# Altium schematic symbol library VitalLink.SchLib: 420 symbols (part 3 of 5)
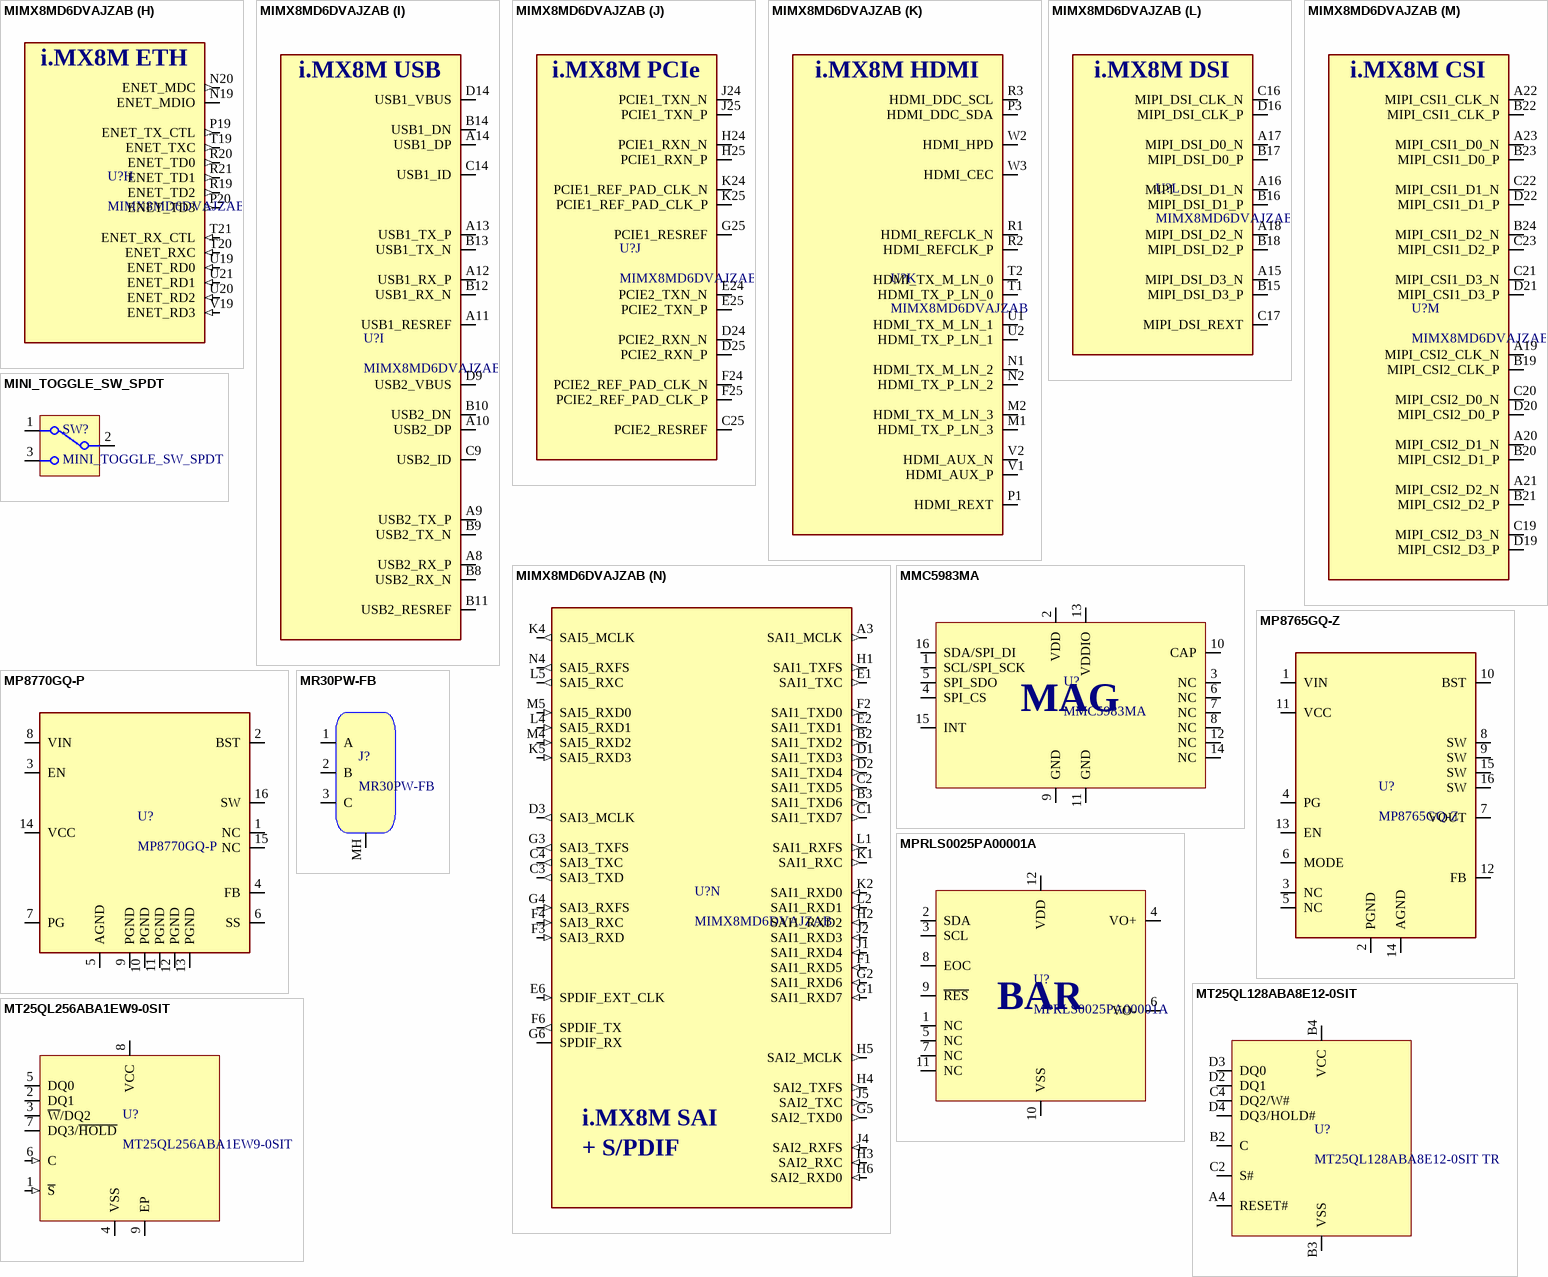
[diagram p29: symbols MIMX8MD6DVAJZAB to MT25QL256ABA1EW9-0SIT]

## MIMX8MD6DVAJZAB
designator U?
Microprocesor i.MX 8M Cortex-A53 1.5GHz Cortex-M4 FBGA-621; Manufacturer: NXP; Manufacturer Part Number: MIMX8MD6DVAJZAB; Distributor Link: https://eu.mouser.com/ProductDetail/NXP-Semiconductors/MIMX8MD6DVAJZAB?qs=byeeYqUIh0McEiqk4xmcPA%3D%3D
footprint BGA621-17X17-0MM65
part A pins: AA10 NVCC_DRAM_3, AA11 VDDA_DRAM, AA15 NVCC_DRAM_4, AB3 NVCC_DRAM_5, AB8 NVCC_DRAM_6, AB17 NVCC_DRAM_7, AB23 NVCC_DRAM_8, AC3 NVCC_DRAM_9, AC6 NVCC_DRAM_10, AC8 NVCC_DRAM_11, AC14 NVCC_DRAM_12, AC17 NVCC_DRAM_13, AC20 NVCC_DRAM_14, AC23 NVCC_DRAM_15, AD5 NVCC_DRAM_16, AD18 NVCC_DRAM_17, AD21 NVCC_DRAM_18, C11 USB2_VPTX, C12 USB1_VPTX, C18 MIPI_VDDHA_1, D8 NVCC_UART, D11 USB2_VP, D12 USB1_VP, D17 MIPI_VDDHA_2, D18 MIPI_VDDHA_3, E3 NVCC_SAI3, E11 USB2_DVDD, E12 USB1_DVDD, E15 MIPI_VDD_1, E17 MIPI_VDDA_1, E18 MIPI_VDDA_2, F5 NVCC_ECSPI, F11 USB2_VPH, F12 USB1_VPH, F15 MIPI_VDD_2, F17 MIPI_VDDA_3, F18 MIPI_VDDA_4, F19 MIPI_VDDPLL, F22 PCIE_VP_1, F23 PCIE_VPTX_1, G11 USB2_VDD33, G12 USB1_VDD33, G14 VDD_ARM_1, G15 VDD_ARM_2, G16 VDD_ARM_3, G22 PCIE_VP_2, G23 PCIE_VPTX_2, H7 NVCC_I2C, H14 VDD_ARM_4, H15 VDD_ARM_5, H16 VDD_ARM_6, H23 PCIE_VPH_1, J7 NVCC_SAI2, J9 VDD_GPU_1, J10 VDD_GPU_2, J15 VDD_ARM_7, J16 VDD_ARM_8, J23 PCIE_VPH_2, K3 NVCC_SAI1_1, K9 VDD_GPU_3, K10 VDD_GPU_4, K12 VDD_SOC_1, K14 VDDA_1P8_FPLL-ARM, K15 VDD_ARM_9, K16 VDD_ARM_10, L3 NVCC_SAI1_2, L9 VDD_GPU_5, L10 VDD_GPU_6, L12 VDD_SOC_2, L13 VDD_SOC_3, L15 VDD_ARM_11, L16 VDD_ARM_12, L18 NVCC_NAND_1, L23 NVCC_SD1_1, M3 NVCC_SAI5, M9 VDD_GPU_7, M10 VDD_GPU_8, M12 VDD_SOC_4, M13 VDD_SOC_5, M15 VDD_ARM_13, M16 VDD_ARM_14, M18 NVCC_NAND_2, M23 NVCC_SD1_2, N8 VDD_VPU_1, N9 VDD_VPU_2, N10 VDD_VPU_3, N11 VDDA_1P8_SPLL_VIDEO2, N13 VDD_SOC_6, N23 NVCC_SD2, P2 HDMI_AVDDIO, P9 VDD_VPU_4, P10 VDD_VPU_5, P12 VDD_SOC_7, P13 VDD_SOC_8, P15 VDD_SOC_9, P16 VDD_SOC_10, R5 NVCC_GPIO1_1, R6 NVCC_GPIO1_2, R8 VDD_SOC_11, R9 VDD_SOC_12, R10 VDD_SOC_13, R11 VDD_SOC_14, R12 VDD_SOC_15, R13 VDD_SOC_16, R14 VDD_SOC_17, R15 VDD_SOC_18, R16 VDD_SOC_19, R17 EFUSE_VQPS, R18 VDD_SNVS, T8 VDD_SOC_20, T15 VDDA_1P8_SPLL_DRAM, T16 VDDA_1P8_TSENSOR, T17 VDD_SOC_21, T18 NVCC_ENET, U3 HDMI_AVDDCORE_1, U4 HDMI_AVDDCORE_2, U10 VDD_DRAM_1, U11 VDD_DRAM_2, U12 VDD_DRAM_3, U13 VDD_DRAM_4, U14 VDD_DRAM_5, U17 VDDA_1P8_FPLL, U23 VDDA_1P8_LVDS, V3 HDMI_AVDDCLK, V9 VDD_DRAM_6, V10 VDD_DRAM_7, V11 VDD_DRAM_8, V12 VDD_DRAM_9, V13 VDD_DRAM_10, V14 VDD_DRAM_11, V15 VDD_DRAM_12, V18 VDDA_0P9, W4 NVCC_JTAG, W17 VDDA_1P8_SPLL, W18 NVCC_SNVS, W23 VDDA_1P8_XTAL_27M, W24 VDDA_1P8_XTAL_25M, Y6 VDD_DRAM_13, Y8 VDD_DRAM_14, Y10 VDD_DRAM_15, Y12 NVCC_DRAM_1, Y14 NVCC_DRAM_2, Y16 VDD_DRAM_16, Y18 VDD_DRAM_17, Y20 VDD_DRAM_18
part B pins: A2 VSS_1 (power), A24 VSS_2 (power), AA5 VSS_120 (power), AA16 VSS_121 (power), AA21 VSS_122 (power), AB2 VSS_123 (power), AB9 VSS_124 (power), AB11 VSS_125 (power), AB18 VSS_126 (power), AB24 VSS_127 (power), AC4 VSS_128 (power), AC19 VSS_129 (power), AC22 VSS_130 (power), AD1 VSS_131 (power), AD7 VSS_132 (power), AD9 VSS_133 (power), AD11 VSS_134 (power), AD13 VSS_135 (power), AD16 VSS_136 (power), AD25 VSS_137 (power), AE2 VSS_138 (power), AE5 VSS_139 (power), AE21 VSS_140 (power), AE24 VSS_141 (power), B1 VSS_3 (power), B25 VSS_4 (power), C8 VSS_5 (power), C10 VSS_6 (power), C13 VSS_7 (power), C15 VSS_8 (power), C24 VSS_9 (power), D10 VSS_10 (power), D13 VSS_11 (power), D15 VSS_12 (power), D23 VSS_13 (power), E4 VSS_14 (power), E10 VSS_15 (power), E13 VSS_16 (power), E14 VSS_17 (power), E16 VSS_18 (power), E19 VSS_19 (power), E20 VSS_20 (power), E21 VSS_21 (power), E22 VSS_22 (power), E23 VSS_23 (power), F10 VSS_24 (power), F13 VSS_25 (power), F14 VSS_26 (power), F16 VSS_27 (power), F20 VSS_28 (power), G9 VSS_29 (power), G10 VSS_30 (power), G13 VSS_31 (power), G17 VSS_32 (power), G18 VSS_33 (power), G24 VSS_34 (power), H8 VSS_35 (power), H9 VSS_36 (power), H10 VSS_37 (power), H11 VSS_38 (power), H12 VSS_39 (power), H13 VSS_40 (power), H17 VSS_41 (power), H18 VSS_42 (power), J3 VSS_43 (power), J8 VSS_44 (power), J11 VSS_45 (power), J12 VSS_46 (power), J13 VSS_47 (power), J14 VSS_48 (power), J17 VSS_49 (power), J18 VSS_50 (power), J19 VSS_51 (power), K8 VSS_52 (power), K11 VSS_53 (power), K13 VSSA_FPLL_ARM (power), K17 VSS_54 (power), K18 VSS_55 (power), K23 VSS_56 (power), L8 VSS_57 (power), L11 VSS_58 (power), L14 VSS_59 (power), L17 VSS_60 (power), M8 VSS_61 (power), M11 VSS_62 (power), M14 VSS_63 (power), M17 VSS_64 (power), N3 VSS_65 (power), N12 VSSA_SPLL_VIDEO2 (power), N14 VSS_66 (power), N15 VSS_67 (power), N16 VSS_68 (power), N17 VSS_69 (power), N18 VSS_70 (power), P6 VSS_71 (power), P8 VSS_72 (power), P11 VSS_73 (power), P14 VSS_74 (power), P17 VSS_75 (power), P18 VSS_76 (power), P23 VSS_77 (power), R7 VSS_78 (power), T3 VSS_79 (power), T4 VSS_80 (power), T9 VSS_81 (power), T10 VSS_82 (power), T11 VSS_83 (power), T12 VSS_84 (power), T13 VSS_85 (power), T14 VSSA_SPLL_DRAM (power), U8 VSS_86 (power), U9 VSS_87 (power), U15 VSS_88 (power), U16 VSSA_FPLL (power), U18 VSS_89 (power), V4 VSS_90 (power), V8 VSS_91 (power), V16 VSS_92 (power), V17 VSSA_SPLL (power), V23 VSSA_XTAL_25M (power), W1 VSS_93 (power), W7 VSS_94 (power), W8 VSS_95 (power), W9 VSS_96 (power), W10 VSS_97 (power), W11 VSS_98 (power), W12 VSS_99 (power), W13 VSS_100 (power), W14 VSS_101 (power), W15 VSS_102 (power), W16 VSS_103 (power), W22 VSSA_XTAL_27M (power), W25 VSS_104 (power), Y2 VSS_105 (power), Y3 VSS_106 (power), Y4 VSS_107 (power), Y5 VSS_108 (power), Y7 VSS_109 (power), Y9 VSS_110 (power), Y11 VSS_111 (power), Y13 VSS_112 (power), Y15 VSS_113 (power), Y17 VSS_114 (power), Y19 VSS_115 (power), Y21 VSS_116 (power), Y22 VSS_117 (power), Y23 VSS_118 (power), Y24 VSS_119 (power)
part C pins: AA1 DRAM_DQ22 (io), AA2 DRAM_DQ20 (io), AA3 DRAM_DQ26 (io), AA4 DRAM_DQ25 (io), AA6 DRAM_DQ27 (io), AA7 DRAM_DQ30 (io), AA8 DRAM_DQ28 (io), AA9 DRAM_DQ31 (io), AA12 DRAM_PAR (out), AA13 DRAM_ZN, AA14 DRAM_VREF, AA17 DRAM_DQ15 (io), AA18 DRAM_DQ12 (io), AA19 DRAM_DQ14 (io), AA20 DRAM_DQ11 (io), AA22 DRAM_DQ09 (io), AA23 DRAM_DQ10 (io), AA24 DRAM_DQ04 (io), AA25 DRAM_DQ06 (io), AB1 DRAM_DQ23 (io), AB4 DRAM_DQ24 (io), AB5 DRAM_DQS3_P (out), AB6 DRAM_DM3 (out), AB7 DRAM_DQ29 (io), AB10 DRAM_NRAS (out), AB12 DRAM_BA1 (out), AB13 DRAM_RESET_N (in), AB14 DRAM_MTEST, AB15 DRAM_A9 (out), AB16 DRAM_A4 (out), AB19 DRAM_DQ13 (io), AB20 DRAM_DM1 (out), AB21 DRAM_DQS1_P (out), AB22 DRAM_DQ08 (io), AB25 DRAM_DQ07 (io), AC1 DRAM_DQS2_N (out), AC2 DRAM_DQS2_P (out), AC5 DRAM_DQS3_N (out), AC7 DRAM_CA2B_A13 (out), AC9 DRAM_CS0B (out), AC10 DRAM_NWE (out), AC11 DRAM_NCS1 (out), AC12 DRAM_ODT0 (out), AC13 DRAM_MTEST1, AC15 DRAM_A3 (out), AC16 DRAM_CKE0A_CKE0 (out), AC18 DRAM_CS1A (out), AC21 DRAM_DQS1_N (out), AC24 DRAM_DQS0_P (out), AC25 DRAM_DQS0_N (out), AD2 DRAM_DQ17 (io), AD3 DRAM_DM2 (out), AD4 DRAM_DQ19 (io), AD6 DRAM_CA5B_A0 (out), AD8 DRAM_CS1B (out), AD10 DRAM_CKE0B_CK (out), AD12 DRAM_CKtB_A2 (out), AD14 DRAM_CKtA_BA2 (out), AD15 DRAM_NCKA (out), AD17 DRAM_CA0A_A12 (out), AD19 DRAM_CA4A_A6 (out), AD20 DRAM_CA2A_A7 (out), AD22 DRAM_DQ03 (io), AD23 DRAM_DM0 (out), AD24 DRAM_DQ01 (io), AE3 DRAM_DQ16 (io), AE4 DRAM_DQ18 (io), AE6 DRAM_CA4B_A10 (out), AE7 DRAM_CA3B_BA0 (out), AE8 DRAM_CA0B (out), AE9 DRAM_CA1B_NCAS (out), AE10 DRAM_CKE1B_NCK (out), AE11 DRAM_ODT1 (out), AE12 DRAM_CKcB_A1 (out), AE13 DRAM_A15 (out), AE14 DRAM_CK_c_A_A14 (out), AE15 DRAM_CKA (out), AE16 DRAM_CA1A_A11 (out), AE17 DRAM_CKE1A_CK1 (out), AE18 DRAM_CS0A_NCS0 (out), AE19 DRAM_CA5A_A5 (out), AE20 DRAM_CA3A_A8 (out), AE22 DRAM_DQ02 (io), AE23 DRAM_DQ00 (io), Y1 DRAM_DQ21 (io), Y25 DRAM_DQ05 (io)
part D pins: R23 CLK1_P (in), T5 JTAG_TCK, T22 CLK2_P (out), T23 CLK1_N (in), U5 JTAG_TDO, U6 JTAG_TRST_B, U7 JTAG_MOD, U22 CLK2_N (out), U24 XTALO_25M (out), U25 XTALI_25M (in), V5 JTAG_TMS, V6 BOOT_MODE1 (in), V7 TEST_MODE (in), V20 PMIC_ON_REQ (out), V21 PMIC_STBY_REQ (out), V22 RTC (in), V24 XTALO_27M (out), V25 XTALI_27M (in), W5 JTAG_TDI, W6 BOOT_MODE0 (in), W19 RTC_RESET_B (in), W20 POR_B (in), W21 ONOFF (in)
part E pins: A4 ECSPI1_MOSI (out), A5 ECSPI2_SS0 (out), A6 UART3_RXD (in), A7 UART1_TXD (out), B4 ECSPI1_MISO (in), B5 ECSPI2_MISO (in), B6 UART2_RXD (in), B7 UART3_TXD (out), C5 ECSPI2_SCLK (out), C6 UART4_RXD (in), C7 UART1_RXD (in), D4 ECSPI1_SS0 (out), D5 ECSPI1_SCLK (out), D6 UART2_TXD (out), D7 UART4_TXD (out), E5 ECSPI2_MOSI (out), E7 I2C1_SCL (io), E8 I2C1_SDA (io), E9 I2C3_SDA (io), F7 I2C2_SDA (io), F8 I2C4_SCL (io), F9 I2C4_SDA (io), G7 I2C2_SCL (io), G8 I2C3_SCL (io), J6 GPIO1_IO15 (io), K6 GPIO1_IO13 (io), K7 GPIO1_IO14 (io), L6 GPIO1_IO11 (io), L7 GPIO1_IO12 (io), M6 GPIO1_IO09 (io), M7 GPIO1_IO10 (io), N5 GPIO1_IO06 (io), N6 GPIO1_IO07 (io), N7 GPIO1_IO08 (io), P4 GPIO1_IO03 (io), P5 GPIO1_IO04 (io), P7 GPIO1_IO05 (io), R4 GPIO1_IO02 (io), T6 GPIO1_IO00 (io), T7 GPIO1_IO01 (io)
part F pins: L21 SD2_CD_B (out), L22 SD2_CLK (out), L24 SD1_CMD (out), L25 SD1_CLK (out), M21 SD2_WP (out), M22 SD2_CMD (out), M24 SD1_DATA1 (io), M25 SD1_DATA0 (io), N21 SD2_DATA1 (io), N22 SD2_DATA0 (io), N24 SD1_DATA4 (io), N25 SD1_DATA2 (io), P21 SD2_DATA3 (io), P22 SD2_DATA2 (io), P24 SD1_DATA5 (io), P25 SD1_DATA3 (io), R22 SD2_RESET_B (out), R24 SD1_RESET_B (out), R25 SD1_DATA6 (io), T24 SD1_STROBE (out), T25 SD1_DATA7 (io)
part G pins: F21 NAND_CE2_B (out), G19 NAND_ALE (out), G20 NAND_DATA00 (io), G21 NAND_CE1_B (out), H19 NAND_CE0_B (out), H20 NAND_CE3_B (out), H21 NAND_CLE (out), H22 NAND_DATA02 (io), J20 NAND_DATA01 (io), J21 NAND_DATA03 (io), J22 NAND_DATA05 (io), K19 NAND_RE_B (in), K20 NAND_READY_B (in), K21 NAND_WP_B (out), K22 NAND_WE_B (out), L19 NAND_DATA06 (io), L20 NAND_DATA04 (io), M19 NAND_DATA07 (io), M20 NAND_DQS (out)
part H pins: N19 ENET_MDIO (io), N20 ENET_MDC (out), P19 ENET_TX_CTL (out), P20 ENET_TD3 (out), R19 ENET_TD2 (out), R20 ENET_TD0 (out), R21 ENET_TD1 (out), T19 ENET_TXC (out), T20 ENET_RXC (in), T21 ENET_RX_CTL (in), U19 ENET_RD0 (in), U20 ENET_RD2 (in), U21 ENET_RD1 (in), V19 ENET_RD3 (in)
part I pins: A8 USB2_RX_P, A9 USB2_TX_P, A10 USB2_DP, A11 USB1_RESREF, A12 USB1_RX_P, A13 USB1_TX_P, A14 USB1_DP, B8 USB2_RX_N, B9 USB2_TX_N, B10 USB2_DN, B11 USB2_RESREF, B12 USB1_RX_N, B13 USB1_TX_N, B14 USB1_DN, C9 USB2_ID, C14 USB1_ID, D9 USB2_VBUS, D14 USB1_VBUS
part J pins: C25 PCIE2_RESREF, D24 PCIE2_RXN_N, D25 PCIE2_RXN_P, E24 PCIE2_TXN_N, E25 PCIE2_TXN_P, F24 PCIE2_REF_PAD_CLK_N, F25 PCIE2_REF_PAD_CLK_P, G25 PCIE1_RESREF, H24 PCIE1_RXN_N, H25 PCIE1_RXN_P, J24 PCIE1_TXN_N, J25 PCIE1_TXN_P, K24 PCIE1_REF_PAD_CLK_N, K25 PCIE1_REF_PAD_CLK_P
part K pins: M1 HDMI_TX_P_LN_3, M2 HDMI_TX_M_LN_3, N1 HDMI_TX_M_LN_2, N2 HDMI_TX_P_LN_2, P1 HDMI_REXT, P3 HDMI_DDC_SDA, R1 HDMI_REFCLK_N, R2 HDMI_REFCLK_P, R3 HDMI_DDC_SCL, T1 HDMI_TX_P_LN_0, T2 HDMI_TX_M_LN_0, U1 HDMI_TX_M_LN_1, U2 HDMI_TX_P_LN_1, V1 HDMI_AUX_P, V2 HDMI_AUX_N, W2 HDMI_HPD, W3 HDMI_CEC
part L pins: A15 MIPI_DSI_D3_N, A16 MIPI_DSI_D1_N, A17 MIPI_DSI_D0_N, A18 MIPI_DSI_D2_N, B15 MIPI_DSI_D3_P, B16 MIPI_DSI_D1_P, B17 MIPI_DSI_D0_P, B18 MIPI_DSI_D2_P, C16 MIPI_DSI_CLK_N, C17 MIPI_DSI_REXT, D16 MIPI_DSI_CLK_P
part M pins: A19 MIPI_CSI2_CLK_N, A20 MIPI_CSI2_D1_N, A21 MIPI_CSI2_D2_N, A22 MIPI_CSI1_CLK_N, A23 MIPI_CSI1_D0_N, B19 MIPI_CSI2_CLK_P, B20 MIPI_CSI2_D1_P, B21 MIPI_CSI2_D2_P, B22 MIPI_CSI1_CLK_P, B23 MIPI_CSI1_D0_P, B24 MIPI_CSI1_D2_N, C19 MIPI_CSI2_D3_N, C20 MIPI_CSI2_D0_N, C21 MIPI_CSI1_D3_N, C22 MIPI_CSI1_D1_N, C23 MIPI_CSI1_D2_P, D19 MIPI_CSI2_D3_P, D20 MIPI_CSI2_D0_P, D21 MIPI_CSI1_D3_P, D22 MIPI_CSI1_D1_P
part N pins: A3 SAI1_MCLK (out), B2 SAI1_TXD2 (out), B3 SAI1_TXD6 (out), C1 SAI1_TXD7 (out), C2 SAI1_TXD5 (out), C3 SAI3_TXD (out), C4 SAI3_TXC (out), D1 SAI1_TXD3 (out), D2 SAI1_TXD4 (out), D3 SAI3_MCLK (out), E1 SAI1_TXC (out), E2 SAI1_TXD1 (out), E6 SPDIF_EXT_CLK (in), F1 SAI1_RXD5 (in), F2 SAI1_TXD0 (out), F3 SAI3_RXD (in), F4 SAI3_RXC (in), F6 SPDIF_TX (out), G1 SAI1_RXD7 (in), G2 SAI1_RXD6 (in), G3 SAI3_TXFS (out), G4 SAI3_RXFS (in), G5 SAI2_TXD0 (out), G6 SPDIF_RX, H1 SAI1_TXFS (out), H2 SAI1_RXD2 (in), H3 SAI2_RXC (in), H4 SAI2_TXFS (out), H5 SAI2_MCLK (out), H6 SAI2_RXD0 (in), J1 SAI1_RXD4 (in), J2 SAI1_RXD3 (in), J4 SAI2_RXFS (in), J5 SAI2_TXC (out), K1 SAI1_RXC (out), K2 SAI1_RXD0 (in), K4 SAI5_MCLK (out), K5 SAI5_RXD3 (in), L1 SAI1_RXFS (out), L2 SAI1_RXD1 (in), L4 SAI5_RXD1 (in), L5 SAI5_RXC (out), M4 SAI5_RXD2 (in), M5 SAI5_RXD0 (in), N4 SAI5_RXFS (out)
part A text: i.MX8M PWR
part B text: i.MX8M GND
part C text: i.MX8M DRAM
part D text: i.MX8M CONFIG
part E text: i.MX8M GPIO
part F text: i.MX8M SD
part G text: i.MX8M NAND
part H text: i.MX8M ETH
part I text: i.MX8M USB
part J text: i.MX8M PCIe
part K text: i.MX8M HDMI
part L text: i.MX8M DSI
part M text: i.MX8M CSI
part N text: i.MX8M SAI; + S/PDIF

## MINI_TOGGLE_SW_SPDT
designator SW?
Mini Toggle Switch SPDT THT
footprint MINI_TOGGLE_SW_SPDT
pins: 1, 2 COM, 3

## MMC5983MA
designator U?
±8 Gauss, High Performance 3-axis Magnetic Sensor I2C/SPI; Manufacturer: MEMSIC; Manufacturer Part Number: MMC5983MA
footprint MMC5983MA-LGA
pins: 1 SCL/SPI_SCK, 2 VDD, 3 NC, 4 SPI_CS, 5 SPI_SDO, 6 NC, 7 NC, 8 NC, 9 GND, 10 CAP, 11 GND, 12 NC, 13 VDDIO, 14 NC, 15 INT, 16 SDA/SPI_DI
text: MAG

## MP8765GQ-Z
designator U?
24V, 6A 500kHz High Efficiency Synchronous Step-down Converter; Manufacturer: MPS; Manufacturer Part Number: MIC24054YJL-TR; Distributor Link: https://www.mouser.de/ProductDetail/Monolithic-Power-Systems-MPS/MP8765GQ-Z?qs=sGAEpiMZZMsMIqGZiACxIbB7TMDfpY7yaU%252B6KH2iNJKGRJEoJj7Lfg%3D%3D
footprint QFN16-3x3-MP8765GQ
pins: 1 VIN, 2 PGND, 3 NC, 4 PG, 5 NC, 6 MODE, 7 VOUT, 8 SW, 9 SW, 10 BST, 11 VCC, 12 FB, 13 EN, 14 AGND, 15 SW, 16 SW

## MP8770GQ-P
designator U?
17V, 8A, 700kHz, High-Efficiency, Synchronous, Step-Down Converter; Manufacturer: MPS; Manufacturer Part Number: MP8770GQ-P; Distributor Link: https://www.mouser.de/ProductDetail/Monolithic-Power-Systems-MPS/MP8770GQ-P?qs=sGAEpiMZZMsMIqGZiACxIY79W%2FZ1FL4F8MuKM7Lvm3Hqk43cfQYG9A%3D%3D
footprint MP8770GQ-P
pins: 1 NC, 2 BST, 3 EN, 4 FB, 5 AGND, 6 SS, 7 PG, 8 VIN, 9 PGND, 10 PGND, 11 PGND, 12 PGND, 13 PGND, 14 VCC, 15 NC, 16 SW

## MPRLS0025PA00001A
designator U?
Board Mount Absolute Pressure Sensor Honeywell I2C 0 to 25 psi; Manufacturer: Honeywell; Manufacturer Part Number: MPRLS0025PA00001A
footprint MPR-SMD-12
pins: 1 NC, 2 SDA, 3 SCL, 4 VO+, 5 NC, 6 VO-, 7 NC, 8 EOC, 9 ~{RES}, 10 VSS, 11 NC, 12 VDD
text: BAR

## MR30PW-FB
designator J?
MR30 Connector Female 3 Position THT PCB-Mount 15A; Manufacturer: AMASS; Manufacturer Part Number: MR30PW-FB
footprint MR30PW-FB
pins: 1 A, 2 B, 3 C, MH

## MT25QL128ABA8E12-0SIT
designator U?, comment MT25QL128ABA8E12-0SIT TR
NOR Flash QSPI 128 Mbit T-PBGA-24; Manufacturer: Micron Technology; Manufacturer Part Number: MT25QL128ABA8E12-0SIT TR
footprint T-PBGA-5x5-6x8-24
pins: A4 RESET#, B2 C, B3 VSS, B4 VCC, C2 S#, C4 DQ2/W#, D2 DQ1, D3 DQ0, D4 DQ3/HOLD#

## MT25QL256ABA1EW9-0SIT
designator U?
3V 256-BIT SERIAL FLASH MEMORY QUAD SPI WSON-8; Manufacturer: Micron; Manufacturer Part Number: MT25QL256ABA1EW9-0SIT; Distributor Link: https://www.lcsc.com/product-detail/NOR-FLASH_Micron-Tech-MT25QL256ABA1EW9-0SIT-TR_C2061007.html; LCSC: C2061007
footprint WSON-8-8X6 (8-Pad WSON 8x6-mm (Package Code E) (Winbond))
pins: 1 ~{S} (in), 2 DQ1 (io), 3 ~{W}/DQ2 (io), 4 VSS (power), 5 DQ0 (io), 6 C (in), 7 DQ3/~{HOLD} (io), 8 VCC (power), 9 EP (power)

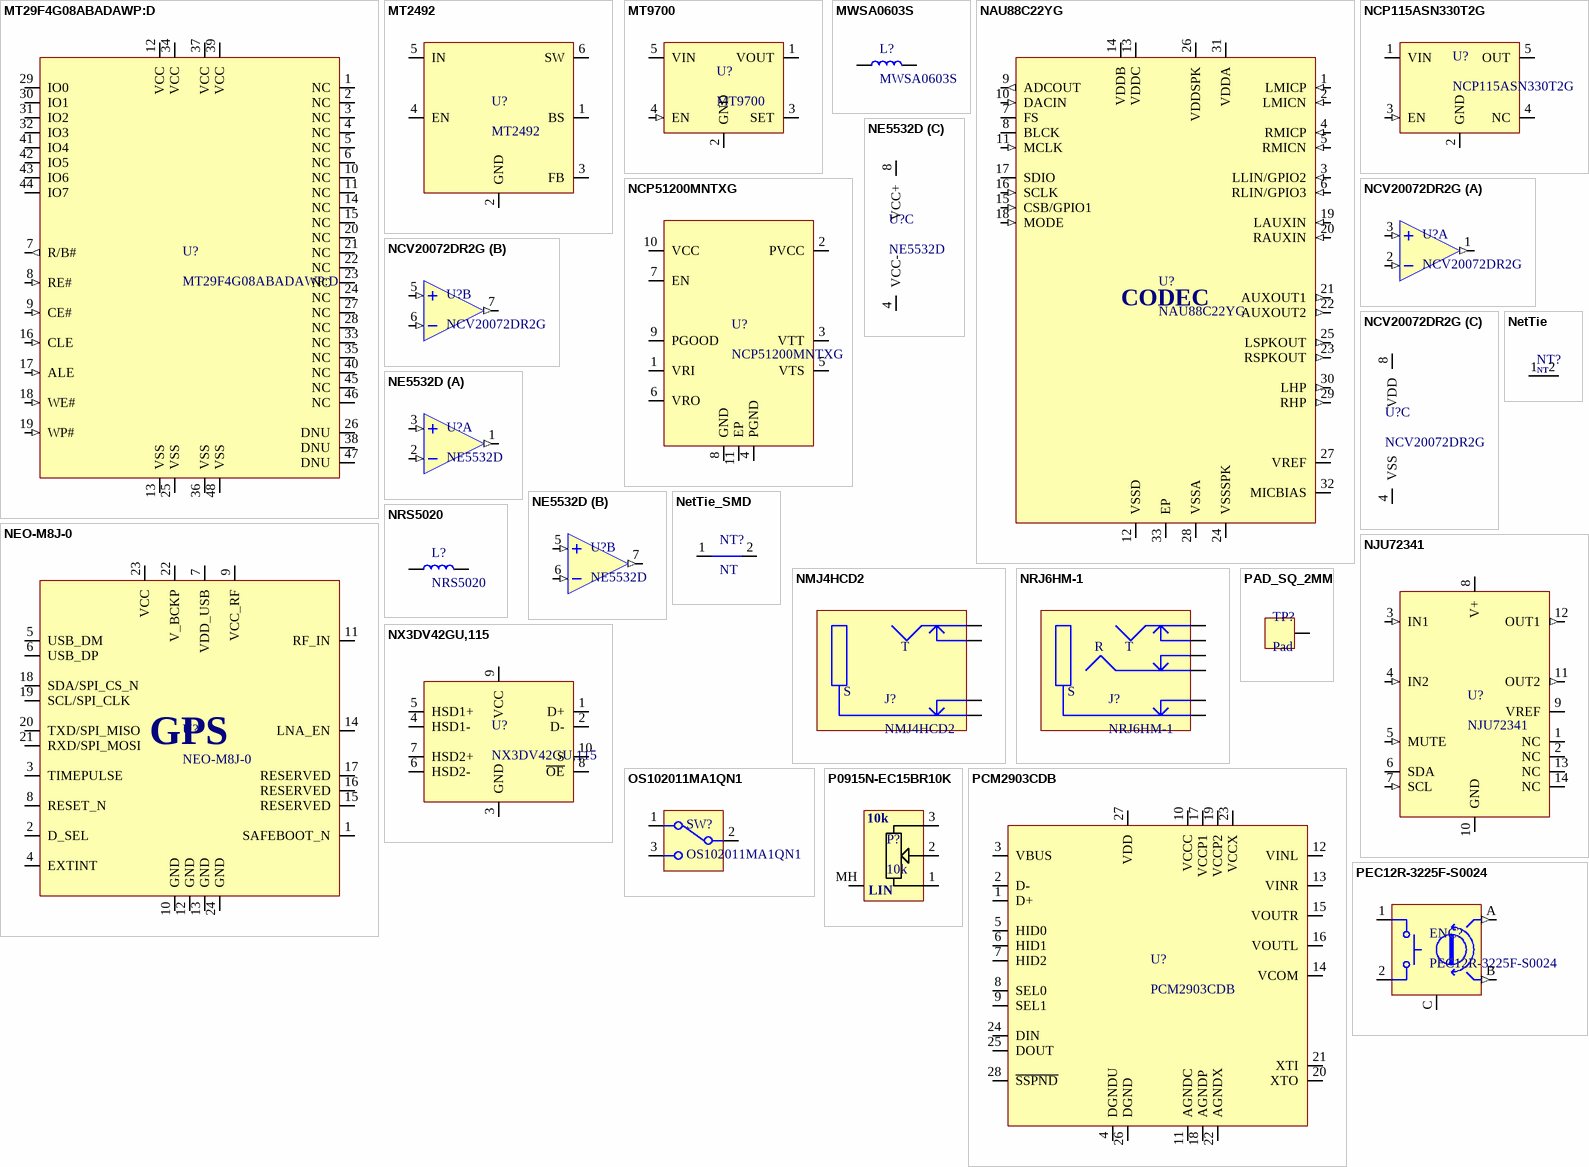
[diagram p14: symbols MT29F4G08ABADAWP:D to PEC12R-3225F-S0024]

## MT29F4G08ABADAWP:D
designator U?
NAND FLASH Memory 4Gb x8 TSOP-48; Manufacturer: Micron; Manufacturer Part Number: MT29F4G08ABADAWP:D; LCSC: C78135
footprint TSOP-48
pins: 1 NC, 2 NC, 3 NC, 4 NC, 5 NC, 6 NC, 7 R/B# (out), 8 RE# (in), 9 CE# (in), 10 NC, 11 NC, 12 VCC (power), 13 VSS (power), 14 NC, 15 NC, 16 CLE (in), 17 ALE (in), 18 WE# (in), 19 WP# (in), 20 NC, 21 NC, 22 NC, 23 NC, 24 NC, 25 VSS (power), 26 DNU, 27 NC, 28 NC, 29 IO0 (io), 30 IO1 (io), 31 IO2 (io), 32 IO3 (io), 33 NC, 34 VCC (power), 35 NC, 36 VSS (power), 37 VCC (power), 38 DNU, 39 VCC (power), 40 NC, 41 IO4 (io), 42 IO5 (io), 43 IO6 (io), 44 IO7 (io), 45 NC, 46 NC, 47 DNU, 48 VSS (power)

## MT2492
designator U?
600KHz, 16V，2A Synchronous / Step-Down Converter; Manufacturer: Aerosemi; Manufacturer Part Number: MT2492
footprint SOT-23-6
pins: 1 BS, 2 GND, 3 FB, 4 EN, 5 IN, 6 SW

## MT9700
designator U?
Adjustable Current-Limited Power Distribution Switch; Manufacturer: Aerosemi; Manufacturer Part Number: MT9700
footprint SOT-23-5 (SOT23, 5-Leads, Body 2,90x2,80mm, Pitch 0,95mm, IPC Medium Density)
pins: 1 VOUT (power), 2 GND (power), 3 SET, 4 EN (in), 5 VIN (power)

## MWSA0603S
designator L?
Power Inductor SMD Sunlord MWSA0603S; Manufacturer Part Number: MWSA0603S-; Manufacturer: Sunlord
footprint MWSA0603S
pins: 1, 2

## NAU88C22YG
designator U?
24-bit Stereo Audio Codec with Speaker Driver; Manufacturer: Nuvoton Tech; Manufacturer Part Number: NAU88C22YG
footprint QFN32-5x5-0.5
pins: 1 LMICP (in), 2 LMICN (in), 3 LLIN/GPIO2 (in), 4 RMICP (in), 5 RMICN (in), 6 RLIN/GPIO3 (in), 7 FS (io), 8 BLCK (io), 9 ADCOUT (out), 10 DACIN (in), 11 MCLK (in), 12 VSSD (power), 13 VDDC (power), 14 VDDB (power), 15 CSB/GPIO1 (in), 16 SCLK (in), 17 SDIO (io), 18 MODE (in), 19 LAUXIN (in), 20 RAUXIN (in), 21 AUXOUT1 (out), 22 AUXOUT2 (out), 23 RSPKOUT (out), 24 VSSSPK (power), 25 LSPKOUT (out), 26 VDDSPK (power), 27 VREF (power), 28 VSSA (power), 29 RHP (out), 30 LHP (out), 31 VDDA (power), 32 MICBIAS (power), 33 EP (power)
text: CODEC

## NCP115ASN330T2G
designator U?
LDO Regulator - High PSRR 300 mA 3.3V TSOP-5; Manufacturer: ON Semiconductor; Manufacturer Part Number: NCP115ASN330T2G
footprint TSOT25 (SOT23, 5-Leads, Body 2.90x2.80mm, Pitch 0.95mm, IPC Medium Density)
pins: 1 VIN (power), 2 GND (power), 3 EN (in), 4 NC, 5 OUT (power)

## NCP51200MNTXG
designator U?
Linear Voltage Regulator / 3A for DDR1, DDR2, DDR3, / LPDDR3, DDR4 VTT / Termination; Manufacturer: onsemi; Manufacturer Part Number: NCP51200MNTXG
footprint DFNW10-3x3-0_5P
pins: 1 VRI, 2 PVCC, 3 VTT, 4 PGND, 5 VTS, 6 VRO, 7 EN, 8 GND, 9 PGOOD, 10 VCC, 11 EP

## NCV20072DR2G
designator U?
Dual Rail-to-Rail Output Operational Amplifiers; Manufacturer: onsemi; Manufacturer Part Number: NCV20072DR2G; Distributor Link: https://www.lcsc.com/product-detail/Operational-Amplifier_onsemi-NCV20072DR2G_C411206.html; LCSC: C411206
footprint SOIC-8 (SOIC, 8-Leads, Body 4.91x3.90mm, Pitch 1.27mm, IPC Medium Density)
part A pins: 1 1OUT (out), 2 1IN- (in), 3 1IN+ (in)
part B pins: 5 2IN+ (in), 6 2IN- (in), 7 2OUT (out)
part C pins: 4 VSS (power), 8 VDD (power)

## NE5532D
designator U?
Dual Low-Noise Operational Amplifiers; Manufacturer: Texas Instruments; Manufacturer Part Number: NE5532D
footprint SOIC-8 (SOIC, 8-Leads, Body 4.91x3.90mm, Pitch 1.27mm, IPC Medium Density)
part A pins: 1 1OUT (out), 2 1IN- (in), 3 1IN+ (in)
part B pins: 5 2IN+ (in), 6 2IN- (in), 7 2OUT (out)
part C pins: 4 VCC-, 8 VCC+

## NEO-M8J-0
designator U?
u-blox M8 concurrent GNSS module; Manufacturer: u-blox; Manufacturer Part Number: NEO-M8J-0
footprint NEO-M8
pins: 1 SAFEBOOT_N, 2 D_SEL, 3 TIMEPULSE, 4 EXTINT, 5 USB_DM, 6 USB_DP, 7 VDD_USB, 8 RESET_N, 9 VCC_RF, 10 GND, 11 RF_IN, 12 GND, 13 GND, 14 LNA_EN, 15 RESERVED, 16 RESERVED, 17 RESERVED, 18 SDA/SPI_CS_N, 19 SCL/SPI_CLK, 20 TXD/SPI_MISO, 21 RXD/SPI_MOSI, 22 V_BCKP, 23 VCC, 24 GND
text: GPS

## NetTie
designator NT?, comment NT  (value not drawn)  (net tie, no BOM)
Net Tie
footprint NETTIE
pins: 1, 2

## NetTie_SMD
designator NT?, comment NT  (net tie, no BOM)
Net Tie SMD
footprint NETTIE_SMD
pins: 1, 2

## NJU72341
designator U?
2-Channel Audio Volume Control I2C; Manufacturer: Nisshinbo; Manufacturer Part Number: NJU72341V-TE2
footprint SSOP-14
pins: 1 NC, 2 NC, 3 IN1 (in), 4 IN2 (in), 5 MUTE (in), 6 SDA (io), 7 SCL (in), 8 V+ (power), 9 VREF (power), 10 GND (power), 11 OUT2 (out), 12 OUT1 (out), 13 NC, 14 NC

## NMJ4HCD2
designator J?
1/4" Mono Jack, TS Switched; Manufacturer: Neutrik; Manufacturer Part Number: NMJ4HCD2
footprint NMJ4HCD2
pins: S, SN, T, TN

## NRJ6HM-1
designator J?
1/4" Stereo Jack, TRS Switched; Manufacturer: Neutrik; Manufacturer Part Number: NRJ6HM-1
footprint NRJ6HM-1
pins: R, RN, S, SN, T, TN

## NRS5020
designator L?
NRS5020 SMD Power Inductor Taiyo Yuden; Manufacturer: Taiyo Yuden; Manufacturer Part Number: NRS5020
footprint NRS5020
pins: 1, 2

## NX3DV42GU,115
designator U?
USB2.0 HS DPDT Switch; Manufacturer: NXP Semiconductors; Manufacturer Part Number: NX3DV42GU,115
footprint XQFN-10_SOT1160-1
pins: 1 D+, 2 D-, 3 GND, 4 HSD1-, 5 HSD1+, 6 HSD2-, 7 HSD2+, 8 ~{OE}, 9 VCC, 10 S

## OS102011MA1QN1
designator SW?
Slide Switch SPDT Horizontal THT; Manufacturer: C&K; Manufacturer Part Number: OS102011MA1QN1
footprint OS102011MA1QN1
pins: 1, 2 COM, 3

## P0915N-EC15BR10K
designator P?, comment 10k
Potentiometer Vertical 10k Linear Taper THT PCB-Mount Smooth Shaft w/ Slot D=6mm L=15mm; Manufacturer: TT Electronics; Manufacturer Part Number: P0915N-EC15BR10K
footprint P0915N-EC15BR10K
pins: 1, 2, 3, MH
text: LIN

## PAD_SQ_2MM
designator TP?, comment Pad  (no BOM)
Test Point Square 2mm
footprint PAD_SQ_2MM
pins: 1

## PCM2903CDB
designator U?
Stereo USB1.1 CODEC with line-out and S/PDIF I/O, Self-powered (HID Interface); Manufacturer: Texas Instruments; Manufacturer Part Number: PCM2903CDB
footprint SSOP-28
pins: 1 D+, 2 D-, 3 VBUS, 4 DGNDU, 5 HID0, 6 HID1, 7 HID2, 8 SEL0, 9 SEL1, 10 VCCC, 11 AGNDC, 12 VINL, 13 VINR, 14 VCOM, 15 VOUTR, 16 VOUTL, 17 VCCP1, 18 AGNDP, 19 VCCP2, 20 XTO, 21 XTI, 22 AGNDX, 23 VCCX, 24 DIN, 25 DOUT, 26 DGND, 27 VDD, 28 ~{SSPND}

## PEC12R-3225F-S0024
designator ENC?
Rotary Encoder with Switch 20 Detents 7mm Bushing 20mm Threaded Shaft Vertical; Manufacturer: Bourns; Manufacturer Part Number: PEC12R-3225F-S0024; Distributor Link: https://www.mouser.de/ProductDetail/Bourns/PEC12R-3225F-S0024?qs=%252B9%2Fcbd0IE0RkGCm1rUs7CA%3D%3D
footprint PEC12R-3225F-S
pins: 1, 2, A (out), B (out), C GND (power)

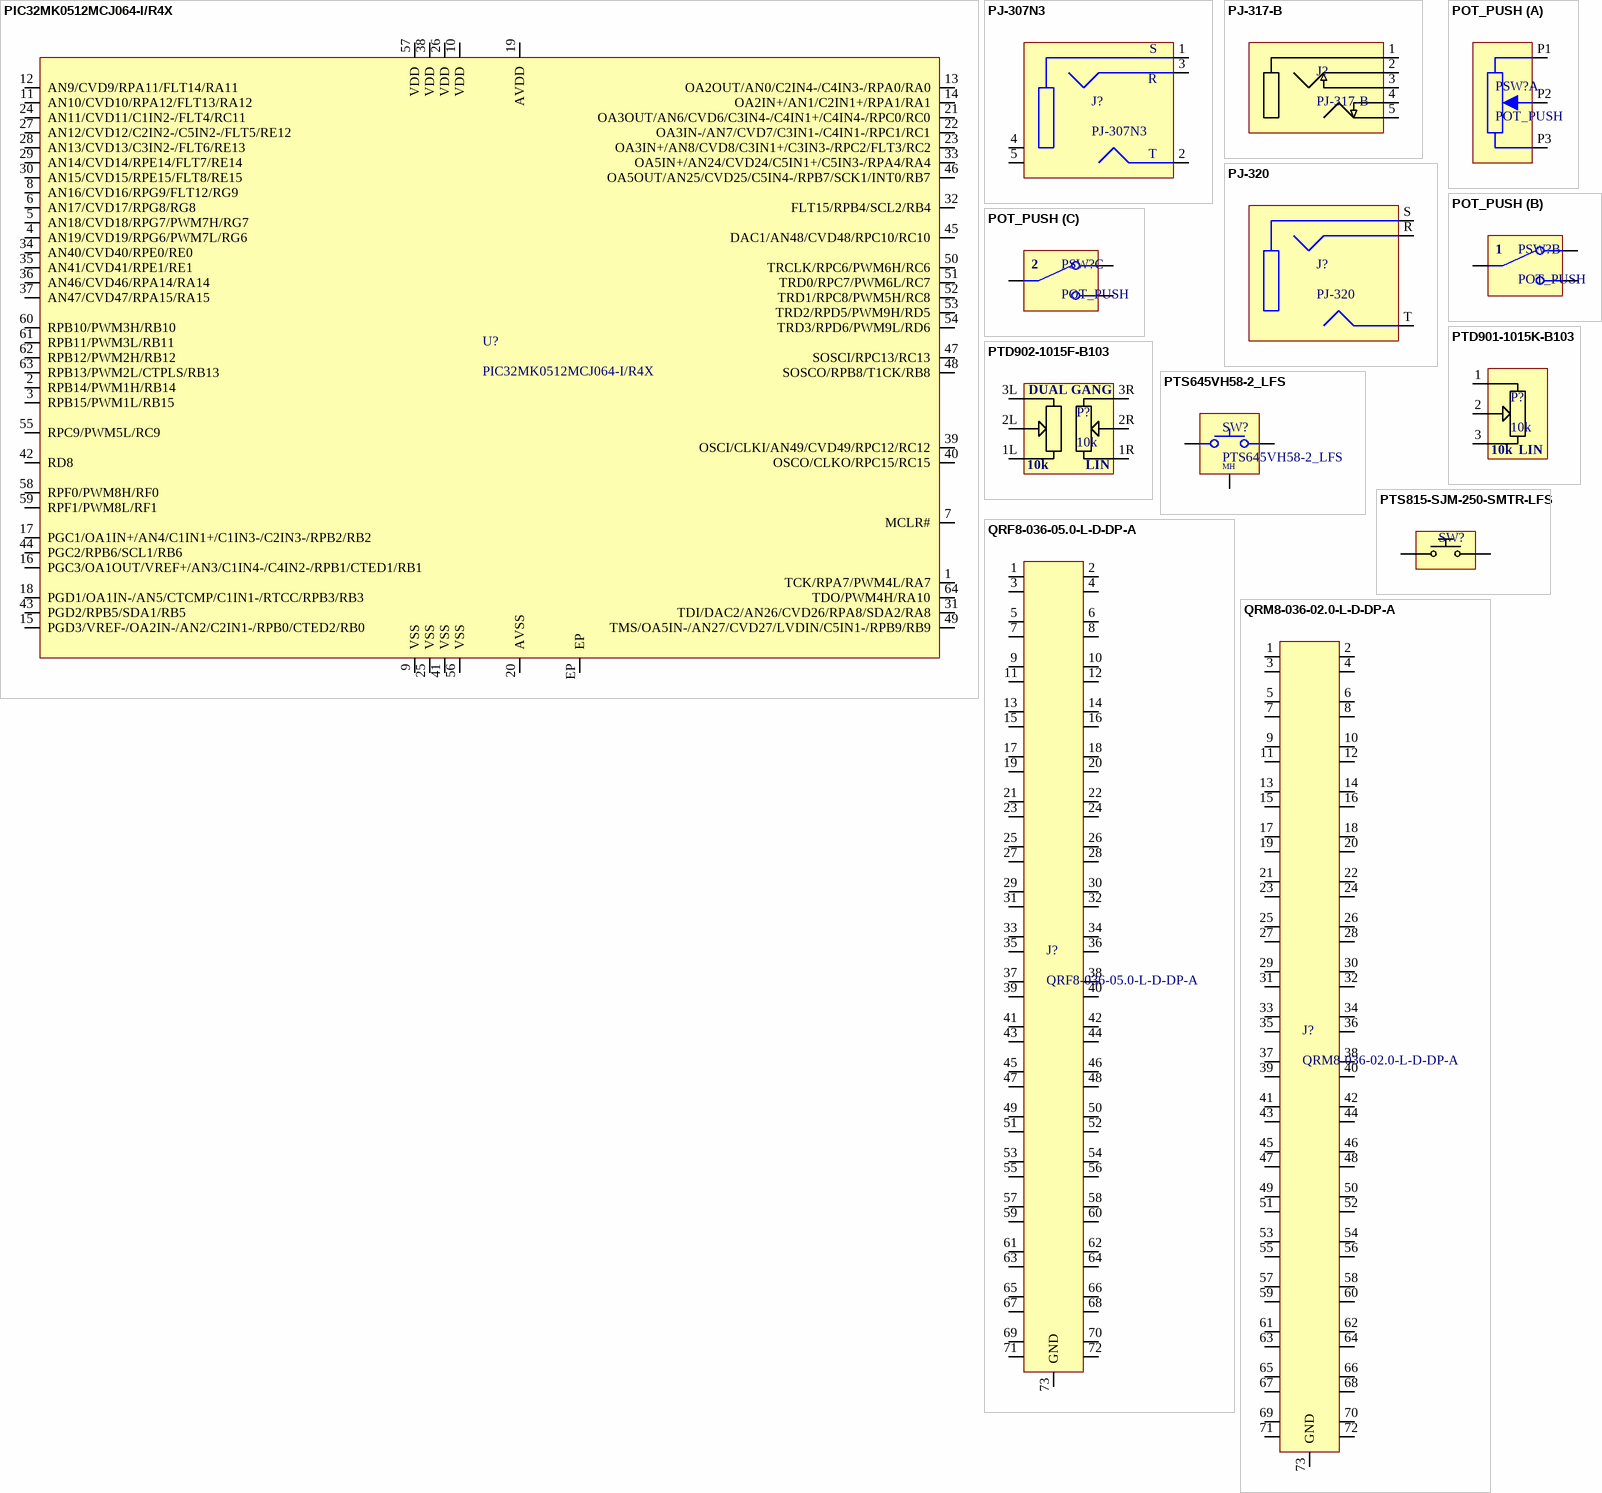
[diagram p15: symbols PIC32MK0512MCJ064-I/R4X to QRM8-036-02.0-L-D-DP-A]

## PIC32MK0512MCJ064-I/R4X
designator U?
32-bit Motor Control Application MCU with CAN FD, FPU, ECC Flash, 512kB Flash, 64kB SRAM, and Op amps; Manufacturer: Microchip; Manufacturer Part Number: PIC32MK0512MCJ064-I/R4X
footprint QFN-64-9x9x0.9-0.5P (QFN, 64-Leads, Body 9.00x9.00mm, Pitch 0.50mm, Thermal Pad 5.40x5.40mm, IPC Medium Density)
pins: 1 TCK/RPA7/PWM4L/RA7, 2 RPB14/PWM1H/RB14, 3 RPB15/PWM1L/RB15, 4 AN19/CVD19/RPG6/PWM7L/RG6, 5 AN18/CVD18/RPG7/PWM7H/RG7, 6 AN17/CVD17/RPG8/RG8, 7 MCLR#, 8 AN16/CVD16/RPG9/FLT12/RG9, 9 VSS (power), 10 VDD (power), 11 AN10/CVD10/RPA12/FLT13/RA12, 12 AN9/CVD9/RPA11/FLT14/RA11, 13 OA2OUT/AN0/C2IN4-/C4IN3-/RPA0/RA0, 14 OA2IN+/AN1/C2IN1+/RPA1/RA1, 15 PGD3/VREF-/OA2IN-/AN2/C2IN1-/RPB0/CTED2/RB0, 16 PGC3/OA1OUT/VREF+/AN3/C1IN4-/C4IN2-/RPB1/CTED1/RB1, 17 PGC1/OA1IN+/AN4/C1IN1+/C1IN3-/C2IN3-/RPB2/RB2, 18 PGD1/OA1IN-/AN5/CTCMP/C1IN1-/RTCC/RPB3/RB3, 19 AVDD (power), 20 AVSS (power), 21 OA3OUT/AN6/CVD6/C3IN4-/C4IN1+/C4IN4-/RPC0/RC0, 22 OA3IN-/AN7/CVD7/C3IN1-/C4IN1-/RPC1/RC1, 23 OA3IN+/AN8/CVD8/C3IN1+/C3IN3-/RPC2/FLT3/RC2, 24 AN11/CVD11/C1IN2-/FLT4/RC11, 25 VSS (power), 26 VDD (power), 27 AN12/CVD12/C2IN2-/C5IN2-/FLT5/RE12, 28 AN13/CVD13/C3IN2-/FLT6/RE13, 29 AN14/CVD14/RPE14/FLT7/RE14, 30 AN15/CVD15/RPE15/FLT8/RE15, 31 TDI/DAC2/AN26/CVD26/RPA8/SDA2/RA8, 32 FLT15/RPB4/SCL2/RB4, 33 OA5IN+/AN24/CVD24/C5IN1+/C5IN3-/RPA4/RA4, 34 AN40/CVD40/RPE0/RE0, 35 AN41/CVD41/RPE1/RE1, 36 AN46/CVD46/RPA14/RA14, 37 AN47/CVD47/RPA15/RA15, 38 VDD (power), 39 OSCI/CLKI/AN49/CVD49/RPC12/RC12, 40 OSCO/CLKO/RPC15/RC15, 41 VSS (power), 42 RD8, 43 PGD2/RPB5/SDA1/RB5, 44 PGC2/RPB6/SCL1/RB6, 45 DAC1/AN48/CVD48/RPC10/RC10, 46 OA5OUT/AN25/CVD25/C5IN4-/RPB7/SCK1/INT0/RB7, 47 SOSCI/RPC13/RC13, 48 SOSCO/RPB8/T1CK/RB8, 49 TMS/OA5IN-/AN27/CVD27/LVDIN/C5IN1-/RPB9/RB9, 50 TRCLK/RPC6/PWM6H/RC6, 51 TRD0/RPC7/PWM6L/RC7, 52 TRD1/RPC8/PWM5H/RC8, 53 TRD2/RPD5/PWM9H/RD5, 54 TRD3/RPD6/PWM9L/RD6, 55 RPC9/PWM5L/RC9, 56 VSS (power), 57 VDD (power), 58 RPF0/PWM8H/RF0, 59 RPF1/PWM8L/RF1, 60 RPB10/PWM3H/RB10, 61 RPB11/PWM3L/RB11, 62 RPB12/PWM2H/RB12, 63 RPB13/PWM2L/CTPLS/RB13, 64 TDO/PWM4H/RA10, EP (power)

## PJ-307N3
designator J?
3.5mm Headphone Jack THT; Manufacturer: XKB Connectivity; Manufacturer Part Number: PJ-307N3
footprint PJ-307N3
pins: 1 Sleeve, 2 Tip, 3 Ring, 4 NC, 5 NC
text: S; R; T

## PJ-317-B
designator J?
3.5mm 5-Position Audio Jack Horizontal Female THT; Manufacturer: XKB; Manufacturer Part Number: PJ-317-B
footprint PJ-317-B
pins: 1, 2, 3, 4, 5

## PJ-320
designator J?
3.5mm Headphone Jack THT; Manufacturer: XKB Connectivity; Manufacturer Part Number: PJ-320
footprint PJ-320
pins: R Ring, S Sleeve, T Tip

## POT_PUSH
designator PSW?
Potentiometer Push-Pull/Push-Push Through-Hole Generic; Manufacturer: *; Manufacturer Part Number: *
footprint POT_PUSH
part A pins: P1 1, P2 2, P3 3
part B pins: SW1COM COM, SW1NC NC, SW1NO NO
part C pins: SW2COM COM, SW2NC NC, SW2NO NO

## PTD901-1015K-B103
designator P?, comment 10k
Potentiometer Horizontal 10k Linear Taper 10% Knurled Shaft THT PCB-Mount; Manufacturer: Bourns; Manufacturer Part Number: PTD901-1015K-B103; Distributor Link: https://eu.mouser.com/ProductDetail/Bourns/PTD901-1015K-B103?qs=h2IHEVivlqCjfZBh0jm4Mw%3D%3D
footprint PTD901-XX15K
pins: 1, 2, 3
text: LIN

## PTD902-1015F-B103
designator P?, comment 10k
Potentiometer Horizontal 10k Dual Gang Linear Taper 10% THT PCB-Mount; Manufacturer: Bourns; Manufacturer Part Number: PTD902-1015F-B103
footprint PTD902-XX15F
pins: 1L 1, 1R 1, 2L 2, 2R 2, 3L 3, 3R 3
text: DUAL GANG; LIN

## PTS645VH58-2_LFS
designator SW?
Tactile Switch THT Right-Angle; Manufacturer: C&K; Manufacturer Part Number: PTS645VH58-2 LFS; Distributor Link: https://www.mouser.de/ProductDetail/CK/PTS645VH58-2-LFS?qs=rqnA19JZHeRF88sNwv94nA%3D%3D
footprint PTS645VH58-2-LFS
pins: 1, 2, MH

## PTS815-SJM-250-SMTR-LFS
designator SW?, comment Tactile Switch  (value not drawn)
Tactile Switches Tact Switch, 12 VDC, 50 mA, 4.2x3.2, 2.5mm H, 180gf, J leadspp SPST; Manufacturer: C&K Switches; Manufacturer Part Number: PTS815 SJM 250 SMTR LFS
footprint PTS815
pins: 1, 2

## QRF8-036-05.0-L-D-DP-A
designator J?
Board to Board & Mezzanine Connectors 0.80 mm Q Rate Slim Body Ground Plane Socket; Manufacturer: Samtec; Manufacturer Part Number: QRF8-036-05.0-L-D-DP-A
footprint QRF8-036-05.0-X-D-DP-A
pins: 1, 2, 3, 4, 5, 6, 7, 8, 9, 10, 11, 12, 13, 14, 15, 16, 17, 18, 19, 20, 21, 22, 23, 24, 25, 26, 27, 28, 29, 30, 31, 32, 33, 34, 35, 36, 37, 38, 39, 40, 41, 42, 43, 44, 45, 46, 47, 48, 49, 50, 51, 52, 53, 54, 55, 56, 57, 58, 59, 60, 61, 62, 63, 64, 65, 66, 67, 68, 69, 70, 71, 72, 73 GND

## QRM8-036-02.0-L-D-DP-A
designator J?
Board to Board & Mezzanine Connectors 0.80 mm Q Rate Slim Body Ground Plane Header; Manufacturer: Samtec; Manufacturer Part Number: QRM8-036-02.0-L-D-DP-A
footprint QRM8-036-02.0-L-D-DP-A
pins: 1, 2, 3, 4, 5, 6, 7, 8, 9, 10, 11, 12, 13, 14, 15, 16, 17, 18, 19, 20, 21, 22, 23, 24, 25, 26, 27, 28, 29, 30, 31, 32, 33, 34, 35, 36, 37, 38, 39, 40, 41, 42, 43, 44, 45, 46, 47, 48, 49, 50, 51, 52, 53, 54, 55, 56, 57, 58, 59, 60, 61, 62, 63, 64, 65, 66, 67, 68, 69, 70, 71, 72, 73 GND

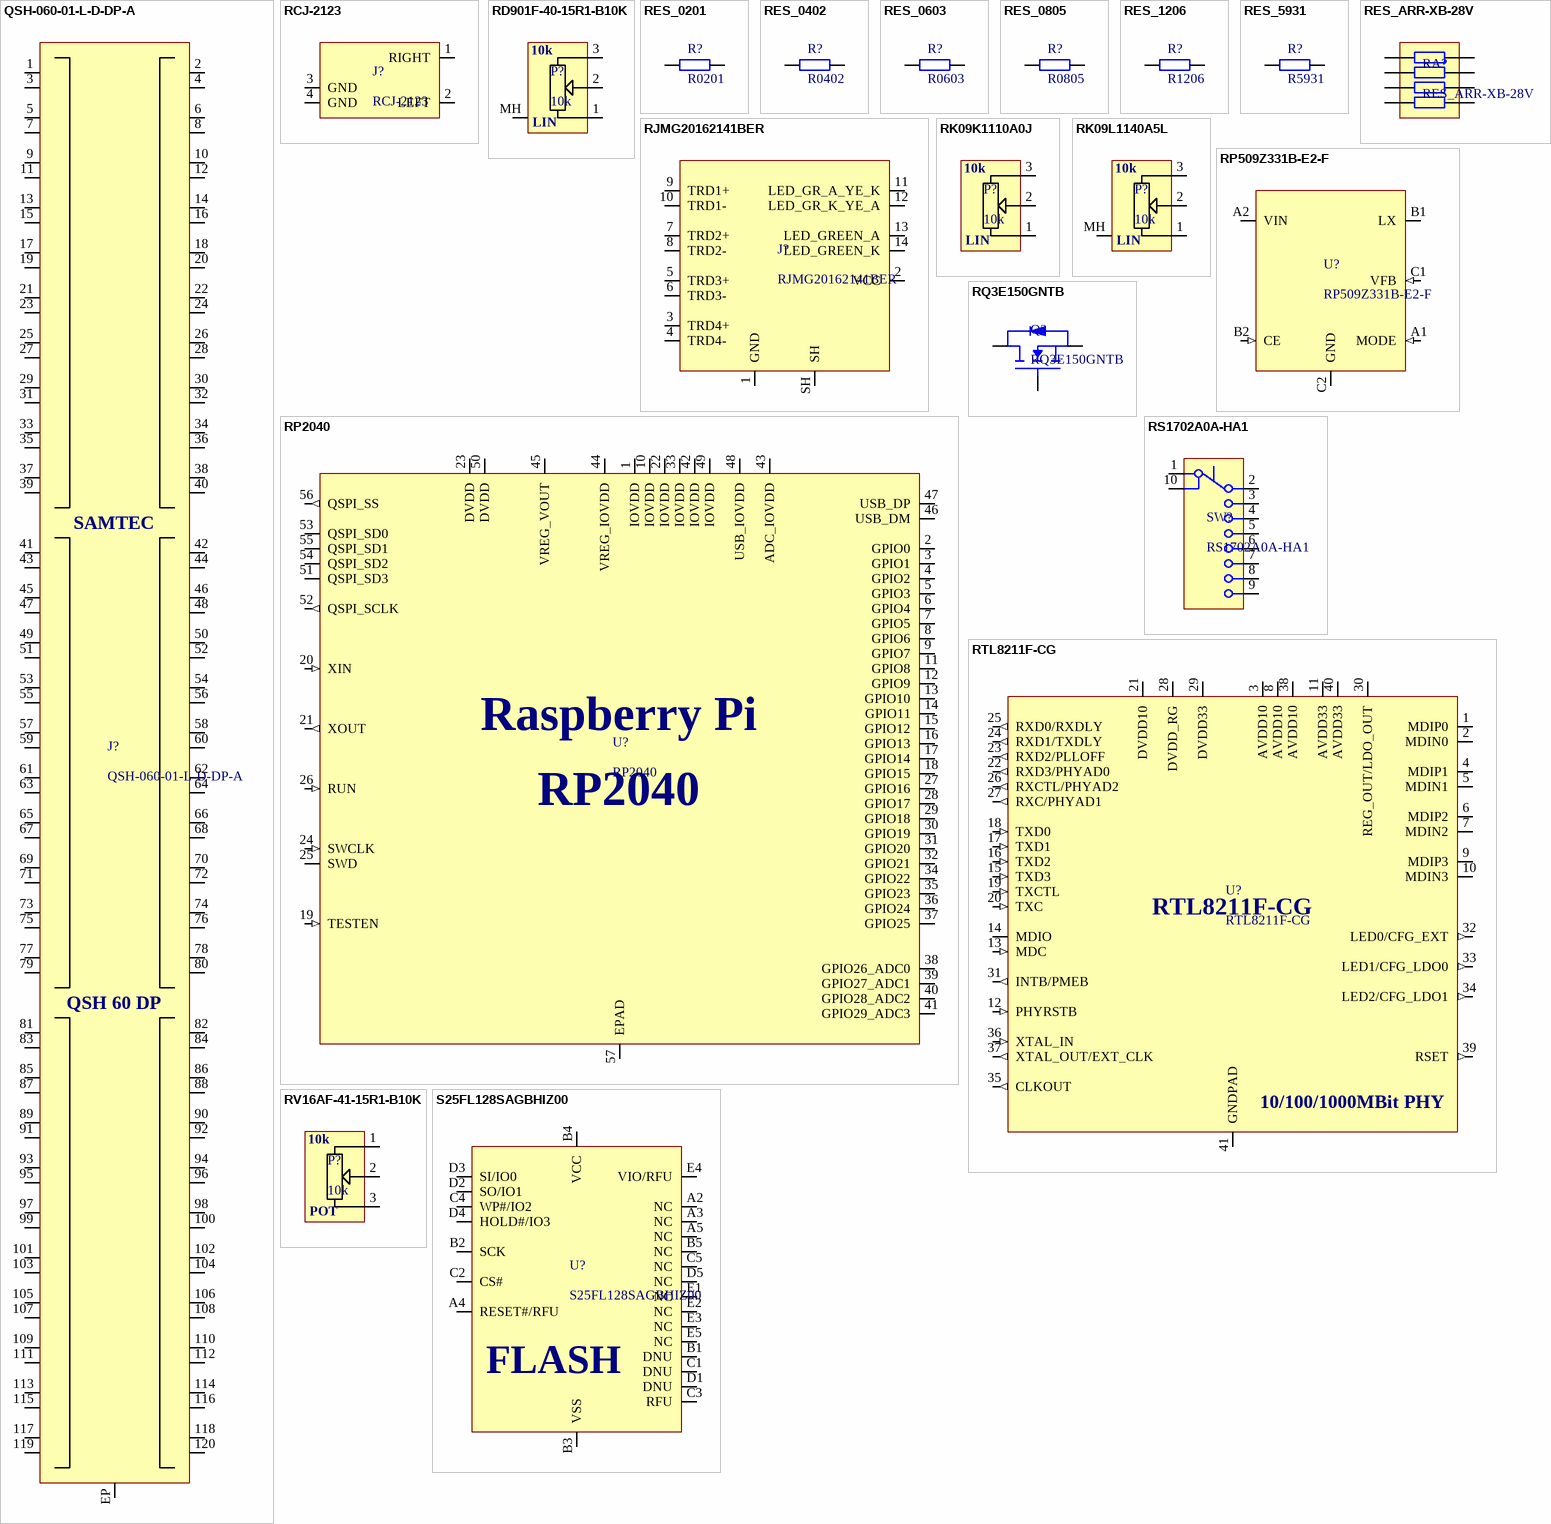
[diagram p16: symbols QSH-060-01-L-D-DP-A to S25FL128SAGBHIZ00]

## QSH-060-01-L-D-DP-A
designator J?
0.50 mm Q Pairs® High-Speed Ground Plane Socket Strip, Differential Pair 120 Positions; Manufacturer: Samtec; Manufacturer Part Number: QSH-060-01-L-D-DP-A
footprint QSH-060-01-L-D-DP-A
pins: 1, 2, 3, 4, 5, 6, 7, 8, 9, 10, 11, 12, 13, 14, 15, 16, 17, 18, 19, 20, 21, 22, 23, 24, 25, 26, 27, 28, 29, 30, 31, 32, 33, 34, 35, 36, 37, 38, 39, 40, 41, 42, 43, 44, 45, 46, 47, 48, 49, 50, 51, 52, 53, 54, 55, 56, 57, 58, 59, 60, 61, 62, 63, 64, 65, 66, 67, 68, 69, 70, 71, 72, 73, 74, 75, 76, 77, 78, 79, 80, 81, 82, 83, 84, 85, 86, 87, 88, 89, 90, 91, 92, 93, 94, 95, 96, 97, 98, 99, 100, 101, 102, 103, 104, 105, 106, 107, 108, 109, 110, 111, 112, 113, 114, 115, 116, 117, 118, 119, 120, EP
text: SAMTEC; QSH 60 DP

## RCJ-2123
designator J?
RCA Phono Connectors Dual Red White PCB Mount RIght-Angle THT; Manufacturer: CUI; Manufacturer Part Number: RCJ-2123
footprint RCJ-2123
pins: 1 RIGHT, 2 LEFT, 3 GND, 4 GND

## RD901F-40-15R1-B10K
designator P?, comment 10k
Potentiometer Vertical 10k 20% Linear Taper THT PCB-Mount 6/15mm Shaft Smooth; Manufacturer: Alps Alpine; Manufacturer Part Number: RD901F-40-15R1-B10K; Distributor Link: https://www.mouser.de/ProductDetail/Alpha-Taiwan/RD901F-40-15R1-B10K-00DL1?qs=1mbolxNpo8c1WX5KjxIjjw%3D%3D
footprint RD901F-40-15R1
pins: 1, 2, 3, MH
text: LIN

## RES_0201
designator R?, comment R0201
Resistor SMD 0201; Manufacturer: *; Manufacturer Part Number: *; Distributor Link: *; LCSC: *
footprint RES_0201
pins: 1, 2

## RES_0402
designator R?, comment R0402
Resistor SMD 0402; Manufacturer: *; Manufacturer Part Number: *; Distributor Link: *; LCSC: *
footprint RES_0402
pins: 1, 2

## RES_0603
designator R?, comment R0603
Resistor SMD 0603; Manufacturer: *; Manufacturer Part Number: *; Distributor Link: *; LCSC: *
footprint RES_0603
pins: 1, 2

## RES_0805
designator R?, comment R0805
Resistor SMD 0805; Manufacturer: *; Manufacturer Part Number: *; Distributor Link: *; LCSC: *
footprint RES_0805
pins: 1, 2

## RES_1206
designator R?, comment R1206
Resistor SMD 1206; Manufacturer: *; Manufacturer Part Number: *; Distributor Link: *; LCSC: *
footprint RES_1206
pins: 1, 2

## RES_5931
designator R?, comment R5931
Current Sense Resistor SMD 0805; Manufacturer: *; Manufacturer Part Number: *; Distributor Link: *
footprint RES_5931
pins: 1, 2

## RES_ARR-XB-28V
designator RA?
Resistor Array 0402 4 Elements Panasonic EXB-28V; Manufacturer: Panasonic
footprint EXB-28V
pins: 1, 2, 3, 4, 5, 6, 7, 8

## RJMG20162141BER
designator J?
100/1000Base-T Magnetics Single-Port RJ45 Connector with Integrated Magnetics and LEDs; Manufacturer: Amphenol; Manufacturer Part Number: RJMG20162141BER; Distributor Link: https://www.mouser.de/ProductDetail/Amphenol-Commercial-Products/RJMG20162141BER?qs=AVT0UMTfAuItaMrM1bOyzg%3D%3D; LCSC: C5433552
footprint RJMG20162141BER
pins: 1 GND, 2 VCC, 3 TRD4+ (io), 4 TRD4- (io), 5 TRD3+ (io), 6 TRD3- (io), 7 TRD2+ (io), 8 TRD2- (io), 9 TRD1+ (io), 10 TRD1- (io), 11 LED_GR_A_YE_K, 12 LED_GR_K_YE_A, 13 LED_GREEN_A, 14 LED_GREEN_K, SH

## RK09K1110A0J
designator P?, comment 10k
Potentiometer Horizontal 10k Linear Taper (1B) 20% THT PCB-Mount; Manufacturer: ALPSALPINE; Manufacturer Part Number: RK09K1110A0J
footprint RK09K1110A0J
pins: 1, 2, 3
text: LIN

## RK09L1140A5L
designator P?, comment 10k
Potentiometer Vertical 10k Linear Taper (1B) THT PCB-Mount D-Type 6mm Shaft; Manufacturer: Alps Alpine; Manufacturer Part Number: RK09L1140A5L
footprint RK09L1140A5L
pins: 1, 2, 3, MH
text: LIN

## RP509Z331B-E2-F
designator U?
0.5A/1A PWM/VFM Step-down DC/DC Converter with Synchronous Rectifier; Manufacturer: Nisshinbo; Manufacturer Part Number: RP509Z331B-E2-F; Distributor Link: https://www.mouser.de/ProductDetail/Nisshinbo/RP509Z331B-E2-F?qs=sGAEpiMZZMsMIqGZiACxIaRXO1%252BRokEQs7docw04LJAW9g0rX9qA6Q%3D%3D
footprint WLCSP-6-P6
pins: A1 MODE (in), A2 VIN (power), B1 LX (power), B2 CE (in), C1 VFB (in), C2 GND (power)

## RP2040
designator U?
32-Bit Dual-Core ARM Cortex-M0+ Microcontroller; Manufacturer: Raspberry Pi; Manufacturer Part Number: RP2040
footprint QFN-56-EP
pins: 1 IOVDD (power), 2 GPIO0 (io), 3 GPIO1 (io), 4 GPIO2 (io), 5 GPIO3 (io), 6 GPIO4 (io), 7 GPIO5 (io), 8 GPIO6 (io), 9 GPIO7 (io), 10 IOVDD (power), 11 GPIO8 (io), 12 GPIO9 (io), 13 GPIO10 (io), 14 GPIO11 (io), 15 GPIO12 (io), 16 GPIO13 (io), 17 GPIO14 (io), 18 GPIO15 (io), 19 TESTEN (in), 20 XIN (in), 21 XOUT (out), 22 IOVDD (power), 23 DVDD (power), 24 SWCLK (in), 25 SWD (io), 26 RUN (in), 27 GPIO16 (io), 28 GPIO17 (io), 29 GPIO18 (io), 30 GPIO19 (io), 31 GPIO20 (io), 32 GPIO21 (io), 33 IOVDD (power), 34 GPIO22 (io), 35 GPIO23 (io), 36 GPIO24 (io), 37 GPIO25 (io), 38 GPIO26_ADC0 (io), 39 GPIO27_ADC1 (io), 40 GPIO28_ADC2 (io), 41 GPIO29_ADC3 (io), 42 IOVDD (power), 43 ADC_IOVDD (power), 44 VREG_IOVDD (power), 45 VREG_VOUT (power), 46 USB_DM (io), 47 USB_DP (io), 48 USB_IOVDD (power), 49 IOVDD (power), 50 DVDD (power), 51 QSPI_SD3 (io), 52 QSPI_SCLK (out), 53 QSPI_SD0 (io), 54 QSPI_SD2 (io), 55 QSPI_SD1 (io), 56 QSPI_SS (out), 57 EPAD (power)

## RQ3E150GNTB
designator Q?
Nch 30V 39A Middle Power MOSFET; Manufacturer: ROHM; Manufacturer Part Number: RQ3E150GNTB
footprint HSMT-8
pins: D, G, S

## RS1702A0A-HA1
designator SW?
Rotarye Switch 10-Position THT; Manufacturer: Soundwell; Manufacturer Part Number: RS1702A0A-HA1
footprint RS1702A0A-HA1-5-012
pins: 1 COM, 2, 3, 4, 5, 6, 7, 8, 9, 10 COM

## RTL8211F-CG
designator U?
INTEGRATED 10/100/1000M ETHERNET PRECISION TRANSCEIVER; Manufacturer: Realtek; Manufacturer Part Number: RTL8211F-CG
footprint QFN-40-0.4-EP (QFN 40 Pads 0.4mm Pitch Thermal Pad)
pins: 1 MDIP0 (io), 2 MDIN0 (io), 3 AVDD10 (power), 4 MDIP1 (io), 5 MDIN1 (io), 6 MDIP2 (io), 7 MDIN2 (io), 8 AVDD10 (power), 9 MDIP3 (io), 10 MDIN3 (io), 11 AVDD33 (power), 12 PHYRSTB (in), 13 MDC (in), 14 MDIO (io), 15 TXD3 (in), 16 TXD2 (in), 17 TXD1 (in), 18 TXD0 (in), 19 TXCTL (in), 20 TXC (in), 21 DVDD10 (power), 22 RXD3/PHYAD0 (out), 23 RXD2/PLLOFF (out), 24 RXD1/TXDLY (out), 25 RXD0/RXDLY (out), 26 RXCTL/PHYAD2 (out), 27 RXC/PHYAD1 (out), 28 DVDD_RG (power), 29 DVDD33 (power), 30 REG_OUT/LDO_OUT (power), 31 INTB/PMEB (out), 32 LED0/CFG_EXT (out), 33 LED1/CFG_LDO0 (out), 34 LED2/CFG_LDO1 (out), 35 CLKOUT (out), 36 XTAL_IN (in), 37 XTAL_OUT/EXT_CLK (out), 38 AVDD10 (power), 39 RSET (out), 40 AVDD33 (power), 41 GNDPAD (power)
text: 10/100/1000MBit PHY

## RV16AF-41-15R1-B10K
designator P?, comment 10k
Potentiometer Vertical 10k THT Chassis-Mount 16mm; Manufacturer: Alpha; Manufacturer Part Number: RV16AF-41-15R1-B10K
footprint RV16AF-41-15R1-B10K
pins: 1, 2, 3
text: POT

## S25FL128SAGBHIZ00
designator U?
NOR Flash 128Mb 133MHz QSPl; Manufacturer: Cypress Semiconductor; Manufacturer Part Number: S25FL128SAGBHIZ00
footprint BGA25C100P5X5_600X800X120 (BGA, 25-Leads, Body 6.00x8.00mmx1.20mm, Pitch 1.00mm)
pins: A2 NC, A3 NC, A4 RESET#/RFU, A5 NC, B1 DNU, B2 SCK, B3 VSS, B4 VCC, B5 NC, C1 DNU, C2 CS#, C3 RFU, C4 WP#/IO2, C5 NC, D1 DNU, D2 SO/IO1, D3 SI/IO0, D4 HOLD#/IO3, D5 NC, E1 NC, E2 NC, E3 NC, E4 VIO/RFU, E5 NC
text: FLASH

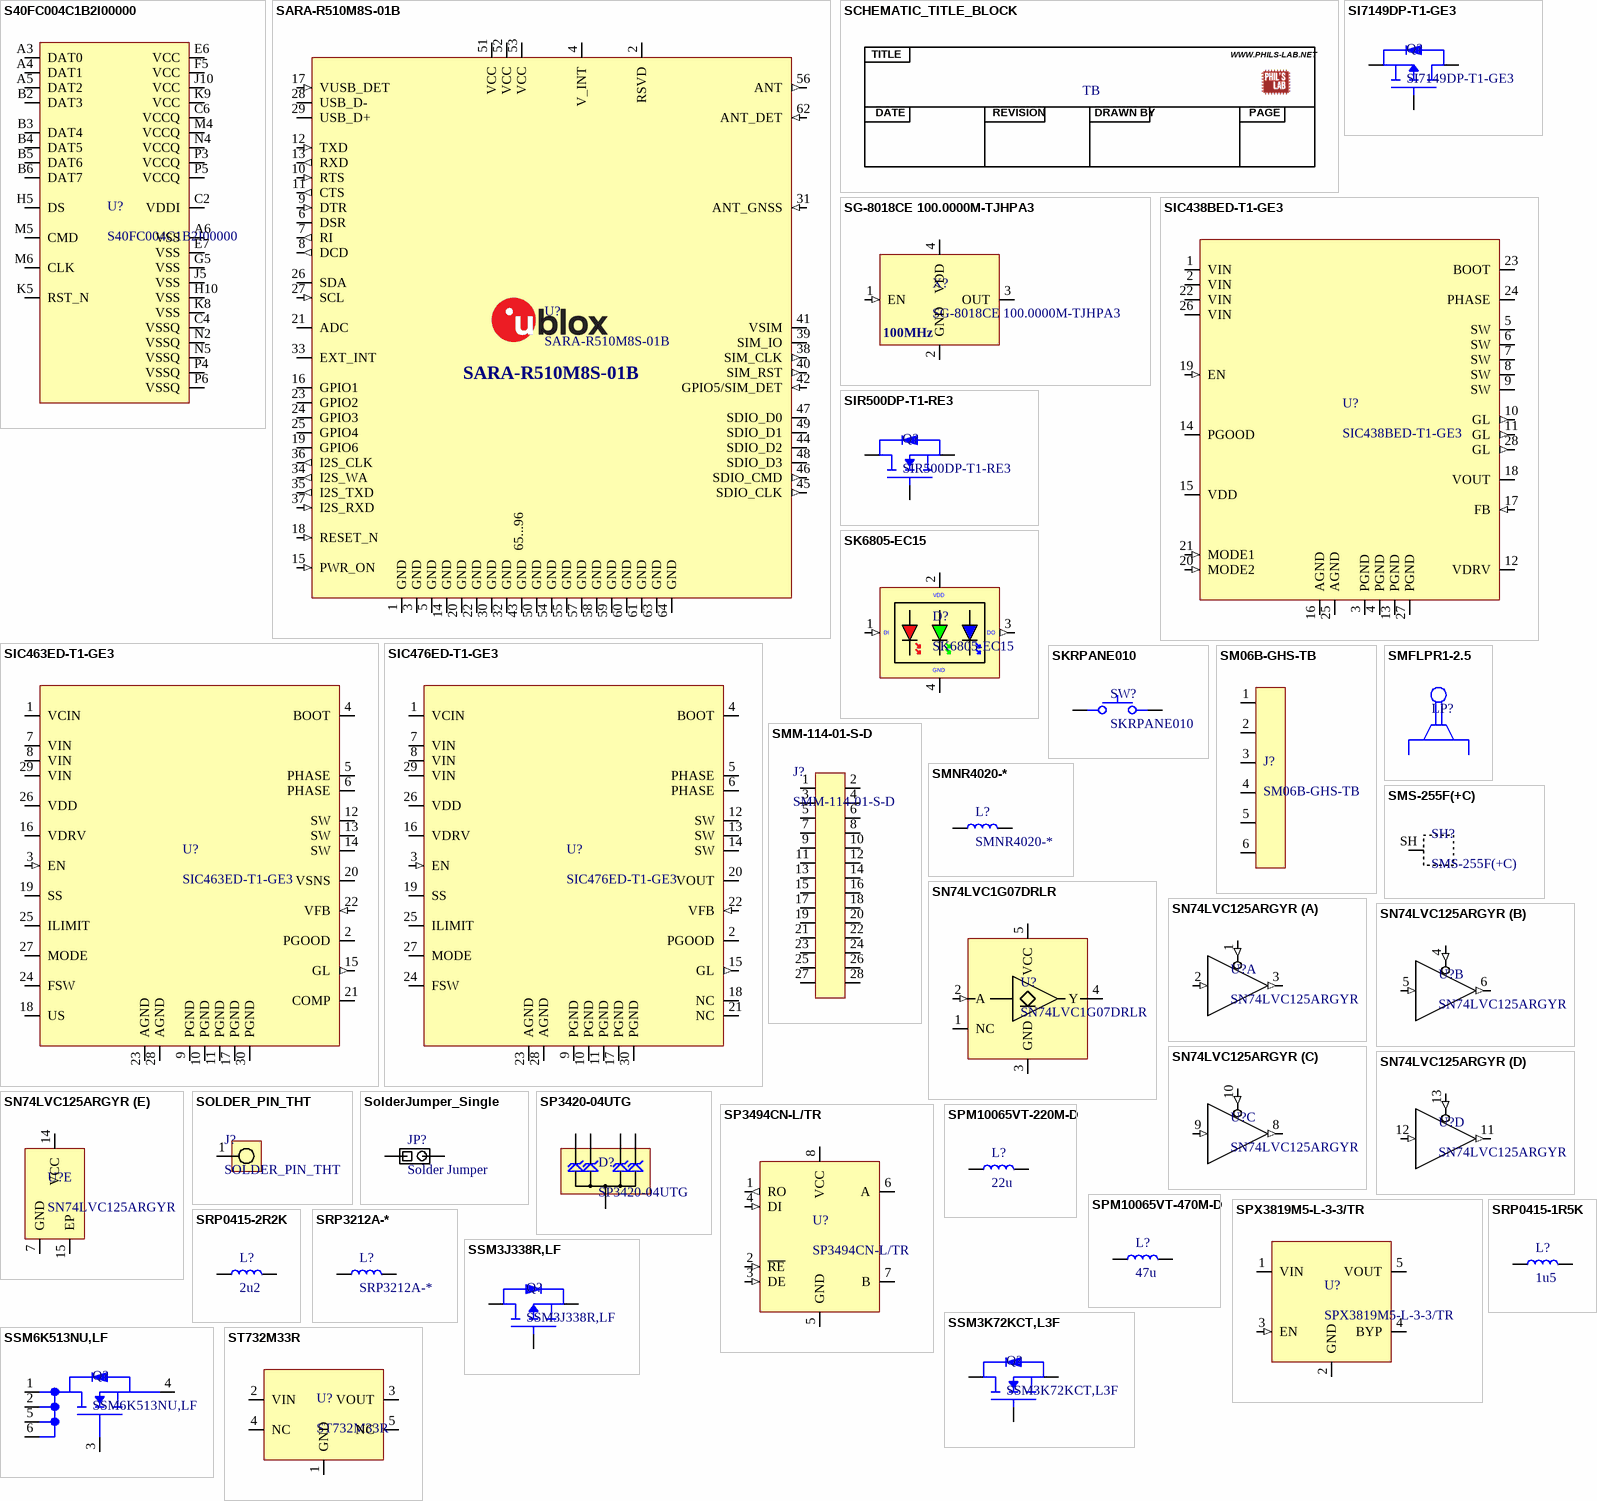
[diagram p17: symbols S40FC004C1B2I00000 to ST732M33R]

## S40FC004C1B2I00000
designator U?
eMMC MLC Memory 4GB 3V3; Manufacturer: SkyHigh Memory; Manufacturer Part Number: S40FC004C1B2I00000
footprint VFBGA153-9.0x7.5x0.8
pins: A3 DAT0, A4 DAT1, A5 DAT2, A6 VSS, B2 DAT3, B3 DAT4, B4 DAT5, B5 DAT6, B6 DAT7, C2 VDDI, C4 VSSQ, C6 VCCQ, E6 VCC, E7 VSS, F5 VCC, G5 VSS, H5 DS, H10 VSS, J5 VSS, J10 VCC, K5 RST_N, K8 VSS, K9 VCC, M4 VCCQ, M5 CMD, M6 CLK, N2 VSSQ, N4 VCCQ, N5 VSSQ, P3 VCCQ, P4 VSSQ, P5 VCCQ, P6 VSSQ

## SARA-R510M8S-01B
designator U?
Secure Cloud LTE-M and NB-IoT combo module with integrated u-blox M8 GNSS receiver for multi-regional use; Manufacturer: u-blox; Manufacturer Part Number: SARA-R510M8S-01B; Distributor Link: https://www.mouser.de/ProductDetail/u-blox/SARA-R510M8S-01B?qs=QNEnbhJQKvYa3sxdFdDP4w%3D%3D&gclid=CjwKCAiAwc-dBhA7EiwAxPRylKnSUPShzCKShE4YmhLtKIzyKR1Hn1Ejf9z6DrhP0wlU82vCiLopnxoC6RgQAvD_BwE
footprint SARA-XX (GSM/GPRS and GSM/EGPRS/HSPA Cellular Module)
pins: 1 GND (power), 2 RSVD, 3 GND (power), 4 V_INT (power), 5 GND (power), 6 DSR (io), 7 RI (out), 8 DCD (out), 9 DTR (in), 10 RTS (in), 11 CTS (out), 12 TXD (in), 13 RXD (out), 14 GND (power), 15 PWR_ON (in), 16 GPIO1 (io), 17 VUSB_DET (in), 18 RESET_N (in), 19 GPIO6, 20 GND (power), 21 ADC (power), 22 GND (power), 23 GPIO2 (io), 24 GPIO3 (io), 25 GPIO4 (io), 26 SDA (io), 27 SCL (in), 28 USB_D- (io), 29 USB_D+ (io), 30 GND (power), 31 ANT_GNSS (in), 32 GND (power), 33 EXT_INT, 34 I2S_WA (out), 35 I2S_TXD (out), 36 I2S_CLK (out), 37 I2S_RXD (in), 38 SIM_CLK (out), 39 SIM_IO (io), 40 SIM_RST (out), 41 VSIM (power), 42 GPIO5/SIM_DET (in), 43 GND (power), 44 SDIO_D2 (io), 45 SDIO_CLK (out), 46 SDIO_CMD (out), 47 SDIO_D0 (io), 48 SDIO_D3 (io), 49 SDIO_D1 (io), 50 GND (power), 51 VCC (power), 52 VCC (power), 53 VCC (power), 54 GND (power), 55 GND (power), 56 ANT (out), 57 GND (power), 58 GND (power), 59 GND (power), 60 GND (power), 61 GND (power), 62 ANT_DET (in), 63 GND (power), 64 GND (power), 65 GND (power), 66 GND (power), 67 GND (power), 68 GND (power), 69 GND (power), 70 GND (power), 71 GND (power), 72 GND (power), 73 GND (power), 74 GND (power), 75 GND (power), 76 GND (power), 77 GND (power), 78 GND (power), 79 GND (power), 80 GND (power), 81 GND (power), 82 GND (power), 83 GND (power), 84 GND (power), 85 GND (power), 86 GND (power), 87 GND (power), 88 GND (power), 89 GND (power), 90 GND (power), 91 GND (power), 92 GND (power), 93 GND (power), 94 GND (power), 95 GND (power), 96 GND (power)
text: 65...96

## SCHEMATIC_TITLE_BLOCK
designator TB  (value not drawn)  (graphical)
Default Schematic Title Block (Phil's Lab)
text: TITLE; WWW.PHILS-LAB.NET; DATE; REVISION; DRAWN BY; PAGE

## SG-8018CE 100.0000M-TJHPA3
designator X?
Standard Clock Oscillators 100 MHz 1.8V-3.3V 15PF 50PPM 3.2mm x 2.5mm; Manufacturer: Epson; Manufacturer Part Number: SG-8018CE 100.0000M-TJHPA3
footprint XTAL_3225
pins: 1 EN (in), 2 GND (power), 3 OUT, 4 VDD (power)
text: 100MHz

## SI7149DP-T1-GE3
designator Q?
MOSFET P-Channel Vds=30V Id=50A Rds=5.2mR; Manufacturer: Vishay; Manufacturer Part Number: SI7149DP-T1-GE3
footprint PowerPAK-SO-8
pins: D, G, S

## SIC438BED-T1-GE3
designator U?
3 V to 28 V Input 8A microBUCK® DC/DC Converter; Manufacturer: Vishay; Manufacturer Part Number: SIC438BED-T1-GE3; Distributor Link: https://eu.mouser.com/ProductDetail/Vishay-Siliconix/SIC438BED-T1-GE3?qs=wd5RIQLrsJhAHAqoS3ITiQ%3D%3D; LCSC: C511430
footprint MLP44-24L
pins: 1 VIN (power), 2 VIN (power), 3 PGND (power), 4 PGND (power), 5 SW (power), 6 SW (power), 7 SW (power), 8 SW (power), 9 SW (power), 10 GL (out), 11 GL (out), 12 VDRV (power), 13 PGND (power), 14 PGOOD (oc), 15 VDD (power), 16 AGND (power), 17 FB (in), 18 VOUT (power), 19 EN (in), 20 MODE2 (in), 21 MODE1 (in), 22 VIN (power), 23 BOOT (power), 24 PHASE (power), 25 AGND (power), 26 VIN (power), 27 PGND (power), 28 GL (out)

## SIC463ED-T1-GE3
designator U?
4.5 V to 60 V Input, 4 A microBUCK® DC/DC Converter; Manufacturer: Vishay; Manufacturer Part Number: SIC463ED-T1-GE3
footprint MLP55-27L
pins: 1 VCIN (power), 2 PGOOD (oc), 3 EN (in), 4 BOOT (power), 5 PHASE (power), 6 PHASE (power), 7 VIN (power), 8 VIN (power), 9 PGND (power), 10 PGND (power), 11 PGND (power), 12 SW (power), 13 SW (power), 14 SW (power), 15 GL (out), 16 VDRV (power), 17 PGND (power), 18 US, 19 SS, 20 VSNS (power), 21 COMP, 22 VFB (in), 23 AGND (power), 24 FSW, 25 ILIMIT, 26 VDD (power), 27 MODE, 28 AGND (power), 29 VIN (power), 30 PGND (power)

## SIC476ED-T1-GE3
designator U?
4.5 V to 55 V Input, 3 A, 5 A, 8 A, 12 A microBUCK® DC/DC Converter; Manufacturer: Vishay; Manufacturer Part Number: SIC476ED-T1-GE3
footprint MLP55-27L
pins: 1 VCIN (power), 2 PGOOD (oc), 3 EN (in), 4 BOOT (power), 5 PHASE (power), 6 PHASE (power), 7 VIN (power), 8 VIN (power), 9 PGND (power), 10 PGND (power), 11 PGND (power), 12 SW (power), 13 SW (power), 14 SW (power), 15 GL (out), 16 VDRV (power), 17 PGND (power), 18 NC, 19 SS, 20 VOUT (power), 21 NC, 22 VFB (in), 23 AGND (power), 24 FSW, 25 ILIMIT, 26 VDD (power), 27 MODE, 28 AGND (power), 29 VIN (power), 30 PGND (power)

## SIR500DP-T1-RE3
designator Q?
MOSFET N-Channel Vds=30V Id=351A Rds=470uR; Manufacturer: Vishay; Manufacturer Part Number: SIR500DP-T1-RE3
footprint PowerPAK-SO-8
pins: D, G, S

## SK6805-EC15
designator D?
RGB LED SMD Addressable; Manufacturer: OPSCO; Manufacturer Part Number: SK6805-EC15; Datasheet: https://www.ledlightinghut.com/files/SK6805-EC15-REV-05-EN.pdf; Distributor Link: https://eu.mouser.com/ProductDetail/Adafruit/4492?qs=CUBnOrq4ZJz3oeplDXDOWA%3D%3D
footprint SK6805-EC15
pins: 1 DIN (in), 2 VDD (power), 3 DOUT (out), 4 GND (power)
text: DI; DO

## SKRPANE010
designator SW?
Tactile Switch SMD SPST; Manufacturer: Alps Alpine; Manufacturer Part Number: SKRPANE010
footprint SKRPANE010
pins: 12, 34

## SM06B-GHS-TB
designator J?
Header Connector 6 Position 1.25MM Pitch SMD Horizontal JST GH; Manufacturer: JST; Manufacturer Part Number: SM06B-GHS-TB
footprint Model Name (Footprint not found)
footprint SM06B-GHS-TB
pins: 1, 2, 3, 4, 5, 6

## SMFLPR1-2.5
designator LP?  (value not drawn)  (mechanical)
LED Light-Pipe Rectangular Lense 2.5in Length 1mm Core; Manufacturer: BIVAR; Manufacturer Part Number: SMFLPR1-2.5; Distributor Link: https://www.mouser.de/ProductDetail/Bivar/SMFLPR1-2.5?qs=jaLxTFIJCisDD%2F7xsHCz4Q%3D%3D
footprint SMFLPR1-2.5

## SMM-114-01-S-D
designator J?
Low Profile Socket Strip 2.00 mm Pitch THT; Manufacturer: Samtec; Manufacturer Part Number: SMM-114-01-S-D
footprint SMM-114-01-S-D
pins: 1, 2, 3, 4, 5, 6, 7, 8, 9, 10, 11, 12, 13, 14, 15, 16, 17, 18, 19, 20, 21, 22, 23, 24, 25, 26, 27, 28

## SMNR4020-*
designator L?
Inductor SXN SMNR4020 Series 4x4x2mm; Manufacturer: SXN; Manufacturer Part Number: SMNR4020-*; Distributor Link: *; LCSC: *
footprint SMNR4020 (Inductor SMNR4020)
pins: 1, 2

## SMS-255F(+C)
designator SH?
RF Shield 19.05mm x 19.05mm x 5.08mm / SMS-255F = Frame / SMS-255C = Cover; Manufacturer: LeaderTech; Manufacturer Part Number: SMS-255F
footprint SMS-255F
pins: SH

## SN74LVC1G07DRLR
designator U?
Single Buffer/Driver With Open-Drain Output; Manufacturer: Texas Instruments; Manufacturer Part Number: SN74LVC1G07DRLR; Distributor Link: https://www.mouser.de/ProductDetail/Texas-Instruments/SN74LVC1G07DRLR?qs=pajgIaoyDUjwau6f5T7MtQ%3D%3D; LCSC: C183013
footprint SOT-5 (SOT, 5-Leads, Body 1.60x1.60mm, Pitch 0.50mm, IPC Medium Density)
pins: 1 NC, 2 A (in), 3 GND (power), 4 Y (oc), 5 VCC (power)

## SN74LVC125ARGYR
designator U?
Quadruple Bus Buffer Gate With 3-State Outputs; Manufacturer: Texas Instruments; Manufacturer Part Number: SN74LVC125ARGYR; Distributor Link: https://www.mouser.de/ProductDetail/Texas-Instruments/SN74LVC125ARGYR?qs=d9gICRQKuCcvN%252BAdiEuZ%252BA%3D%3D; LCSC: https://www.lcsc.com/product-detail/Buffer-Driver-Transceiver_Texas-Instruments-SN74LVC125ARGYR_C2652108.html
footprint VQFN-14 (QFN, 14-Leads, Body 3.50x3.50mm, Pitch 0.50mm, Thermal Pad 2.00x2.00mm, IPC Medium Density)
part A pins: 1 1~{OE} (in), 2 1A (in), 3 1Y (out)
part B pins: 4 2~{OE} (in), 5 2A (in), 6 2Y (out)
part C pins: 8 3Y (out), 9 3A (in), 10 3~{OE} (in)
part D pins: 11 4Y (out), 12 4A (in), 13 4~{OE} (in)
part E pins: 7 GND (power), 14 VCC (power), 15 EP (power)

## SOLDER_PIN_THT
designator J?
Solder Pin 1.5mm Through-Hole
footprint SOLDER_PIN_THT_1_5
pins: 1

## SolderJumper_Single
designator JP?, comment Solder Jumper
Solder Jumper Single 0.5mm Pitch
footprint SolderJumper_Single
pins: 1, 2

## SP3420-04UTG
designator D?
TVS Diode Array Low Capacitance ESD Protection 4-Channel (Vwork=3V3, Vclamp=6V); Manufacturer: Littelfuse; Manufacturer Part Number: SP3420-04UTG
footprint uDFN-10
pins: 29, 38 GND, 47, 56, 110

## SP3494CN-L/TR
designator U?
3.3V Low Power RS-485 / RS-422 Transceiver SOIC-8; Manufacturer: MaxLinear; Manufacturer Part Number: SP3494CN-L/TR
footprint SOIC-8 (SOIC, 8-Leads, Body 4.91x3.90mm, Pitch 1.27mm, IPC Medium Density)
pins: 1 RO (out), 2 ~{RE} (in), 3 DE (in), 4 DI (in), 5 GND (power), 6 A (io), 7 B (io), 8 VCC (power)

## SPM10065VT-220M-D
designator L?, comment 22u
Inductor SMD 22uH 5.4A 20%; Manufacturer: TDK; Manufacturer Part Number: SPM10065VT-220M-D
footprint SPM10065VT-220M-D
pins: 1, 2

## SPM10065VT-470M-D
designator L?, comment 47u
Inductor SMD 47uH 4A 20%; Manufacturer: TDK; Manufacturer Part Number: SPM10065VT-470M-D
footprint SPM10065VT-220M-D
pins: 1, 2

## SPX3819M5-L-3-3/TR
designator U?
500mA +3.3V Low-Noise LDO Voltage Regulator; Manufacturer: MaxLinear; Manufacturer Part Number: SPX3819M5-L-3-3/TR
footprint SOT-23-5 (SOT23, 5-Leads, Body 2,90x2,80mm, Pitch 0,95mm, IPC Medium Density)
pins: 1 VIN (power), 2 GND (power), 3 EN (in), 4 BYP, 5 VOUT (power)

## SRP0415-1R5K
designator L?, comment 1u5
Inductor SMD 1.5uH Bourns SRP0415-1R5K; Manufacturer: Bourns; Manufacturer Part Number: SRP0415-1R5K
footprint SRP0415
pins: 1, 2

## SRP0415-2R2K
designator L?, comment 2u2
Inductor SMD 2.2uH Bourns SRP0415-2R2K; Manufacturer: Bourns; Manufacturer Part Number: SRP0415-2R2K
footprint SRP0415
pins: 1, 2

## SRP3212A-*
designator L?
Shielded Power Inductor SMD SRP3212A; Manufacturer: Bourns; Manufacturer Part Number: SRP3212A-*; Distributor Link: *
footprint SRP3212A
pins: 1, 2

## SSM3J338R,LF
designator Q?
MOSFET P-Channel Vds=12V Id=6A; Manufacturer Part Number: Toshiba; Manufacturer: SSM3J338R,LF
footprint SSM3J338R,LF-SOT23-F
pins: D, G, S

## SSM3K72KCT,L3F
designator Q?
MOSFET N-Channel Vds=60V Id=400mA Rds(on)=1.05R with ESD Protection; Manufacturer: Toshiba; Manufacturer Part Number: SSM3K72KCT,L3F; Distributor Link: https://www.mouser.de/ProductDetail/Toshiba/SSM3K72KCTL3F?qs=PDgMCp4xDJZBSQ%2Fqg29QOw%3D%3D
footprint CST3-SOT-883
pins: D, G, S

## SSM6K513NU,LF
designator Q?
MOSFET N-Channel Vds=30V Vgs=20V Id=15A; Manufacturer: Toshiba; Manufacturer Part Number: SSM6K513NU,LF; Distributor Link: https://www.mouser.de/ProductDetail/Toshiba/SSM6K513NULF?qs=zPgndZZmKGbOGaIT7oO3Dw%3D%3D; LCSC: C3008601
footprint SOT-1220
pins: 1 D, 2 D, 3 G, 4 S, 5 D, 6 D

## ST732M33R
designator U?
300 mA, 28 V LDO low-dropout voltage regulator, with 5 µA quiescent current; Manufacturer: STMicroelectronics; Manufacturer Part Number: ST732M33R
footprint SOT-23-5 (SOT23, 5-Leads, Body 2,90x2,80mm, Pitch 0,95mm, IPC Medium Density)
pins: 1 GND (power), 2 VIN (power), 3 VOUT (power), 4 NC, 5 NC

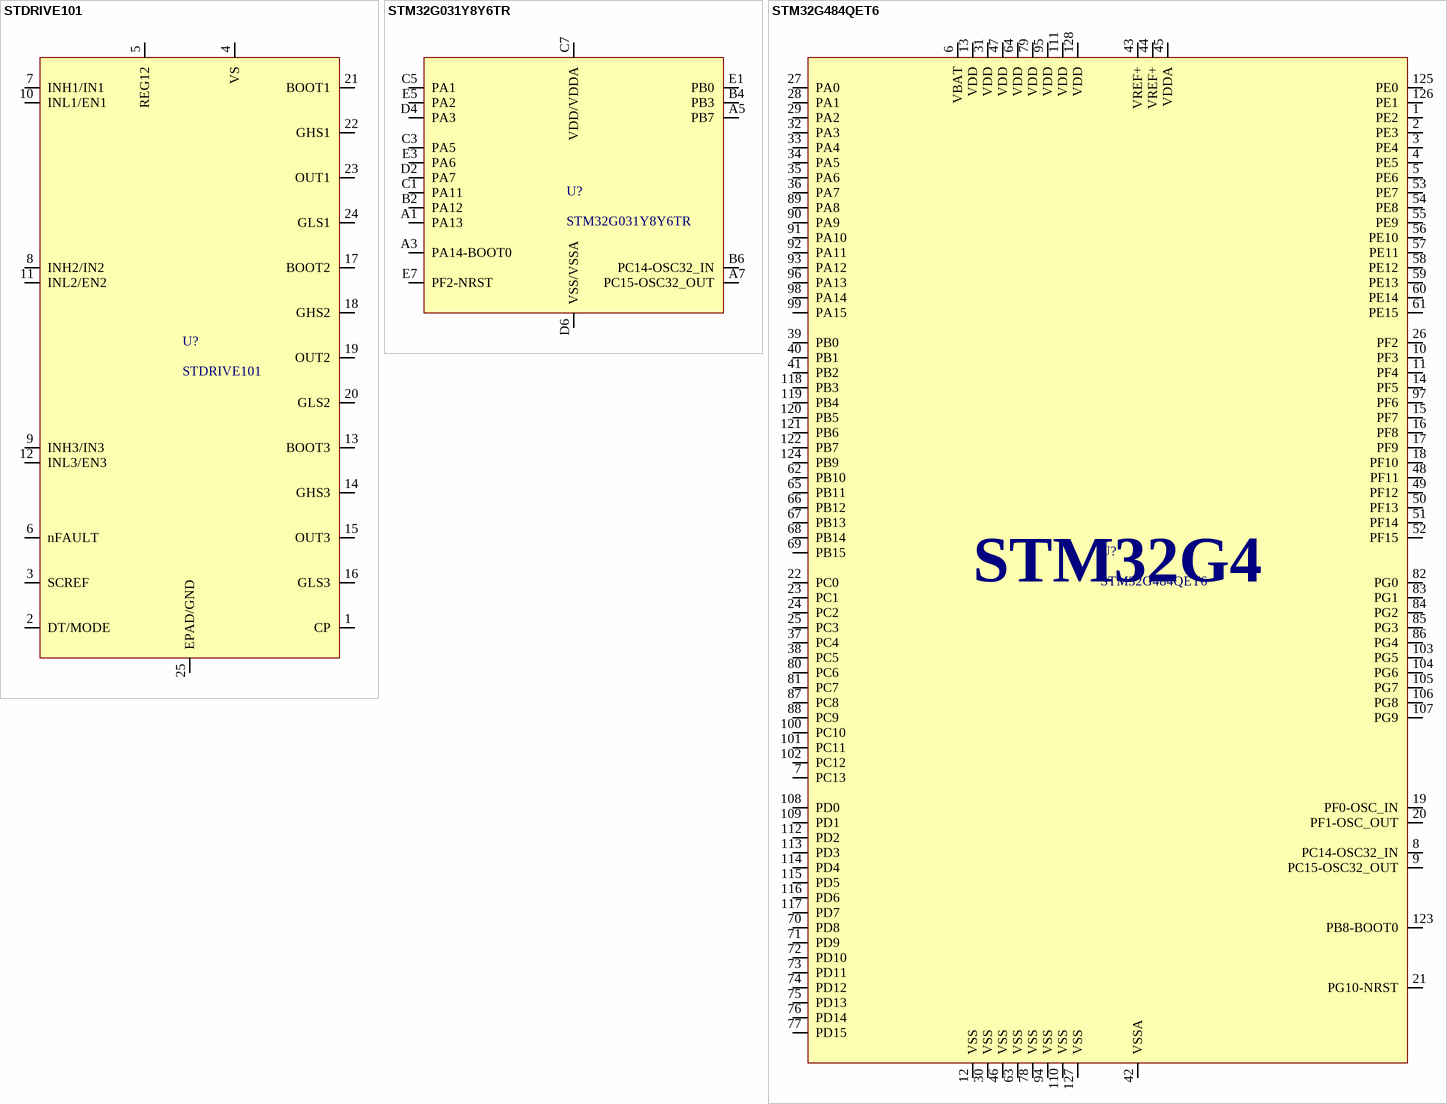
[diagram p18: symbols STDRIVE101 to STM32G484QET6]

## STDRIVE101
designator U?
Gate Driver 3x Half-Bridge; Manufacturer: STMicroelectronics; Manufacturer Part Number: STDRIVE101
footprint VFQFPN24_4X4X1 (QFN, 24-Leads, Body 4,00x4,00mm, Pitch 0,50mm, Thermal Pad 2,50x2,50mm, IPC Medium Density)
pins: 1 CP, 2 DT/MODE, 3 SCREF, 4 VS, 5 REG12, 6 nFAULT, 7 INH1/IN1, 8 INH2/IN2, 9 INH3/IN3, 10 INL1/EN1, 11 INL2/EN2, 12 INL3/EN3, 13 BOOT3, 14 GHS3, 15 OUT3, 16 GLS3, 17 BOOT2, 18 GHS2, 19 OUT2, 20 GLS2, 21 BOOT1, 22 GHS1, 23 OUT1, 24 GLS1, 25 EPAD/GND

## STM32G031Y8Y6TR
designator U?
ARM Microcontrollers - MCU Mainstream Arm Cortex-M0+ MCU 64 Kbytes of Flash 8 Kbytes RAM, 64 MHz CPU STM32; Manufacturer: STMicroelectronics; Manufacturer Part Number: STM32G031Y8Y6TR
footprint WLCSP18
pins: A1 PA13, A3 PA14-BOOT0, A5 PB7, A7 PC15-OSC32_OUT, B2 PA12, B4 PB3, B6 PC14-OSC32_IN, C1 PA11, C3 PA5, C5 PA1, C7 VDD/VDDA (power), D2 PA7, D4 PA3, D6 VSS/VSSA (power), E1 PB0, E3 PA6, E5 PA2, E7 PF2-NRST

## STM32G484QET6
designator U?
STM32G4 Microcontroller LQFP-128 170 MHz 107 I/O; Manufacturer: STMicroelectronics; Manufacturer Part Number: STM32G484QET6
footprint LQFP-128 (CQFP, 128-Leads, Body 16,00x16,00mm, Pitch 0,40mm, IPC Medium Density)
pins: 1 PE2, 2 PE3, 3 PE4, 4 PE5, 5 PE6, 6 VBAT, 7 PC13, 8 PC14-OSC32_IN, 9 PC15-OSC32_OUT, 10 PF3, 11 PF4, 12 VSS, 13 VDD, 14 PF5, 15 PF7, 16 PF8, 17 PF9, 18 PF10, 19 PF0-OSC_IN, 20 PF1-OSC_OUT, 21 PG10-NRST, 22 PC0, 23 PC1, 24 PC2, 25 PC3, 26 PF2, 27 PA0, 28 PA1, 29 PA2, 30 VSS, 31 VDD, 32 PA3, 33 PA4, 34 PA5, 35 PA6, 36 PA7, 37 PC4, 38 PC5, 39 PB0, 40 PB1, 41 PB2, 42 VSSA, 43 VREF+, 44 VREF+, 45 VDDA, 46 VSS, 47 VDD, 48 PF11, 49 PF12, 50 PF13, 51 PF14, 52 PF15, 53 PE7, 54 PE8, 55 PE9, 56 PE10, 57 PE11, 58 PE12, 59 PE13, 60 PE14, 61 PE15, 62 PB10, 63 VSS, 64 VDD, 65 PB11, 66 PB12, 67 PB13, 68 PB14, 69 PB15, 70 PD8, 71 PD9, 72 PD10, 73 PD11, 74 PD12, 75 PD13, 76 PD14, 77 PD15, 78 VSS, 79 VDD, 80 PC6, 81 PC7, 82 PG0, 83 PG1, 84 PG2, 85 PG3, 86 PG4, 87 PC8, 88 PC9, 89 PA8, 90 PA9, 91 PA10, 92 PA11, 93 PA12, 94 VSS, 95 VDD, 96 PA13, 97 PF6, 98 PA14, 99 PA15, 100 PC10, 101 PC11, 102 PC12, 103 PG5, 104 PG6, 105 PG7, 106 PG8, 107 PG9, 108 PD0, 109 PD1, 110 VSS, 111 VDD, 112 PD2, 113 PD3, 114 PD4, 115 PD5, 116 PD6, 117 PD7, 118 PB3, 119 PB4, 120 PB5, 121 PB6, 122 PB7, 123 PB8-BOOT0, 124 PB9, 125 PE0, 126 PE1, 127 VSS, 128 VDD
text: STM32G4

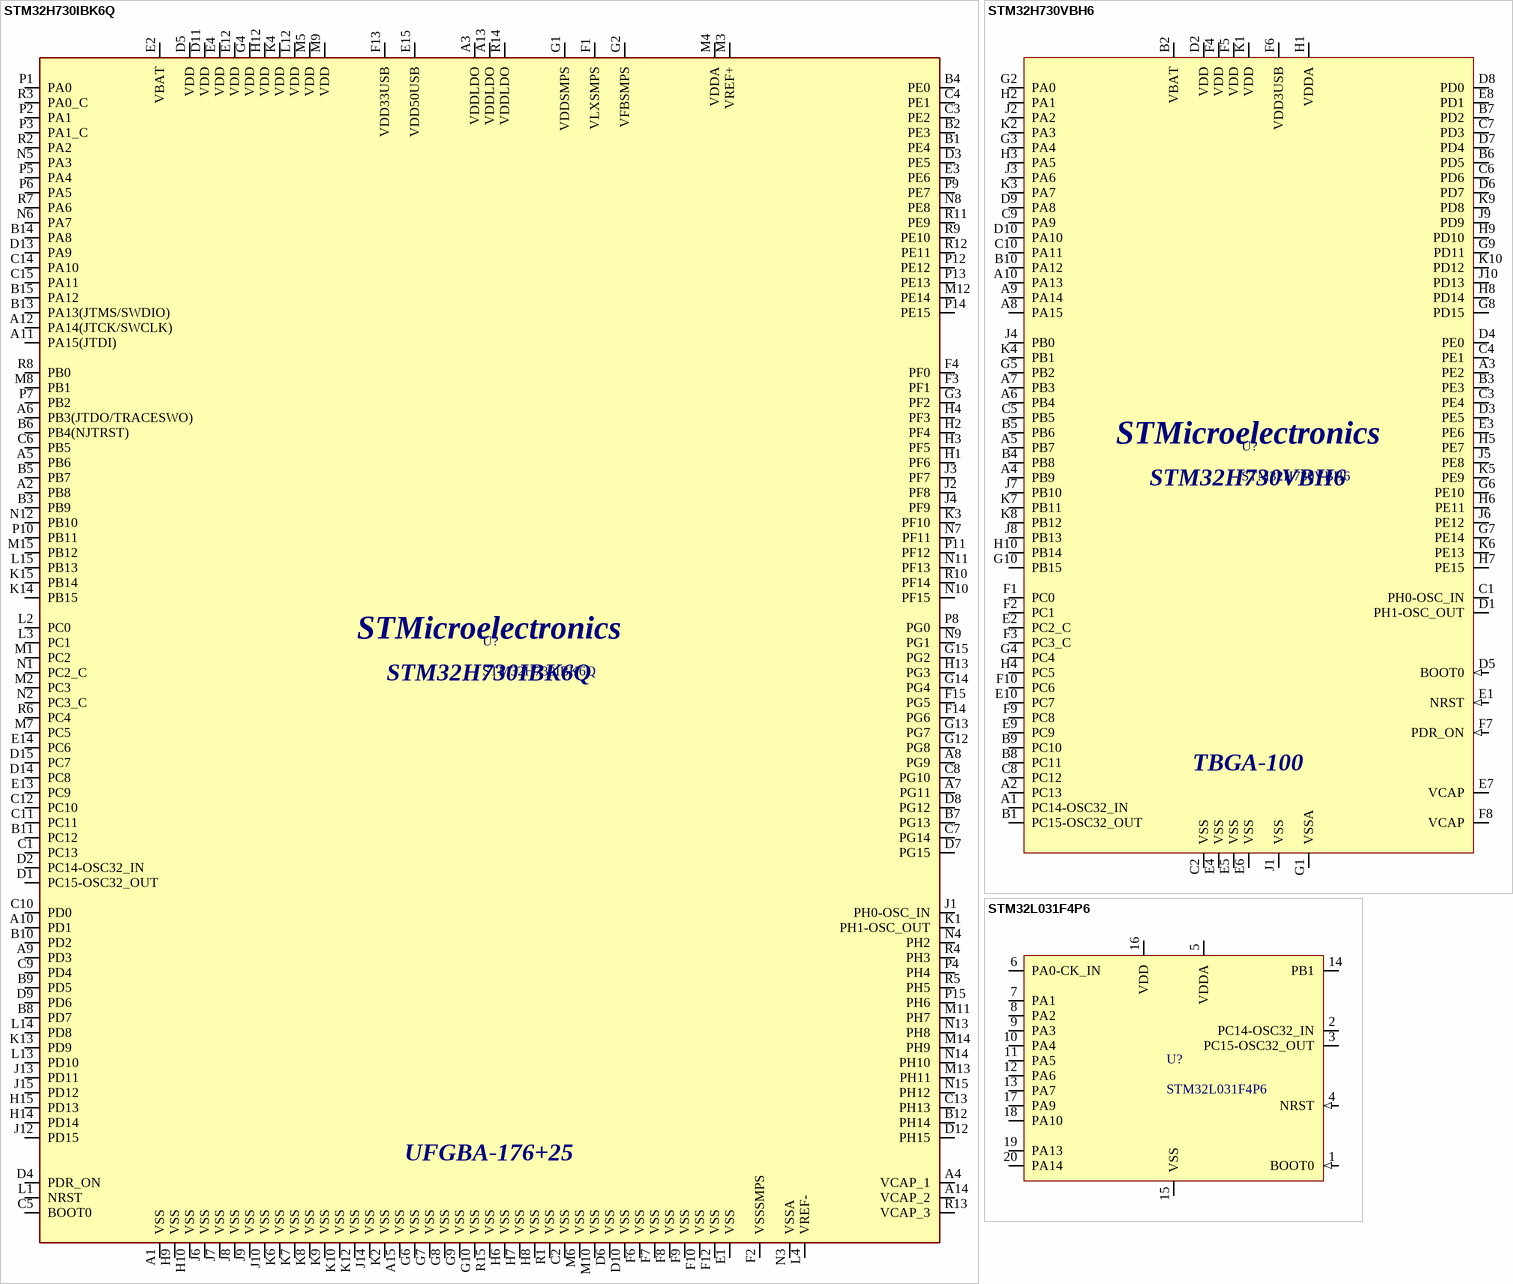
[diagram p19: symbols STM32H730IBK6Q to STM32L031F4P6]

## STM32H730IBK6Q
designator U?
Arm® Cortex®-M7 32b 550 MHz MCU, 128 KB Flash, 564 KB RAM, Ethernet, USB, 3xFD-CAN, Graphics, 2x16b ADCs, crypto/hash, UFBGA-176+25 (10x10); Manufacturer: STMicroelectronics; Manufacturer Part Number: STM32H730IBK6Q
footprint UFBGA176+25
pins: A1 VSS, A2 PB8, A3 VDDLDO, A4 VCAP_1, A5 PB6, A6 PB3(JTDO/TRACESWO), A7 PG11, A8 PG9, A9 PD3, A10 PD1, A11 PA15(JTDI), A12 PA14(JTCK/SWCLK), A13 VDDLDO, A14 VCAP_2, A15 VSS, B1 PE4, B2 PE3, B3 PB9, B4 PE0, B5 PB7, B6 PB4(NJTRST), B7 PG13, B8 PD7, B9 PD5, B10 PD2, B11 PC12, B12 PH14, B13 PA13(JTMS/SWDIO), B14 PA8, B15 PA12, C1 PC13, C2 VSS, C3 PE2, C4 PE1, C5 BOOT0, C6 PB5, C7 PG14, C8 PG10, C9 PD4, C10 PD0, C11 PC11, C12 PC10, C13 PH13, C14 PA10, C15 PA11, D1 PC15-OSC32_OUT, D2 PC14-OSC32_IN, D3 PE5, D4 PDR_ON, D5 VDD, D6 VSS, D7 PG15, D8 PG12, D9 PD6, D10 VSS, D11 VDD, D12 PH15, D13 PA9, D14 PC8, D15 PC7, E1 VSS, E2 VBAT, E3 PE6, E4 VDD, E12 VDD, E13 PC9, E14 PC6, E15 VDD50USB, F1 VLXSMPS, F2 VSSSMPS, F3 PF1, F4 PF0, F6 VSS, F7 VSS, F8 VSS, F9 VSS, F10 VSS, F12 VSS, F13 VDD33USB, F14 PG6, F15 PG5, G1 VDDSMPS, G2 VFBSMPS, G3 PF2, G4 VDD, G6 VSS, G7 VSS, G8 VSS, G9 VSS, G10 VSS, G12 PG8, G13 PG7, G14 PG4, G15 PG2, H1 PF6, H2 PF4, H3 PF5, H4 PF3, H6 VSS, H7 VSS, H8 VSS, H9 VSS, H10 VSS, H12 VDD, H13 PG3, H14 PD14, H15 PD13, J1 PH0-OSC_IN, J2 PF8, J3 PF7, J4 PF9, J6 VSS, J7 VSS, J8 VSS, J9 VSS, J10 VSS, J12 PD15, J13 PD11, J14 VSS, J15 PD12, K1 PH1-OSC_OUT, K2 VSS, K3 PF10, K4 VDD, K6 VSS, K7 VSS, K8 VSS, K9 VSS, K10 VSS, K12 VSS, K13 PD9, K14 PB15, K15 PB14, L1 NRST, L2 PC0, L3 PC1, L4 VREF-, L12 VDD, L13 PD10, L14 PD8, L15 PB13, M1 PC2, M2 PC3, M3 VREF+, M4 VDDA, M5 VDD, M6 VSS, M7 PC5, M8 PB1, M9 VDD, M10 VSS, M11 PH7, M12 PE14, M13 PH11, M14 PH9, M15 PB12, N1 PC2_C, N2 PC3_C, N3 VSSA, N4 PH2, N5 PA3, N6 PA7, N7 PF11, N8 PE8, N9 PG1, N10 PF15, N11 PF13, N12 PB10, N13 PH8, N14 PH10, N15 PH12, P1 PA0, P2 PA1, P3 PA1_C, P4 PH4, P5 PA4, P6 PA5, P7 PB2, P8 PG0, P9 PE7, P10 PB11, P11 PF12, P12 PE12, P13 PE13, P14 PE15, P15 PH6, R1 VSS, R2 PA2, R3 PA0_C, R4 PH3, R5 PH5, R6 PC4, R7 PA6, R8 PB0, R9 PE10, R10 PF14, R11 PE9, R12 PE11, R13 VCAP_3, R14 VDDLDO, R15 VSS
text: UFGBA-176+25